# Altium schematic symbol library dungvh03-CERN_Connectors.SchLib: 576 symbols (part 5 of 8)
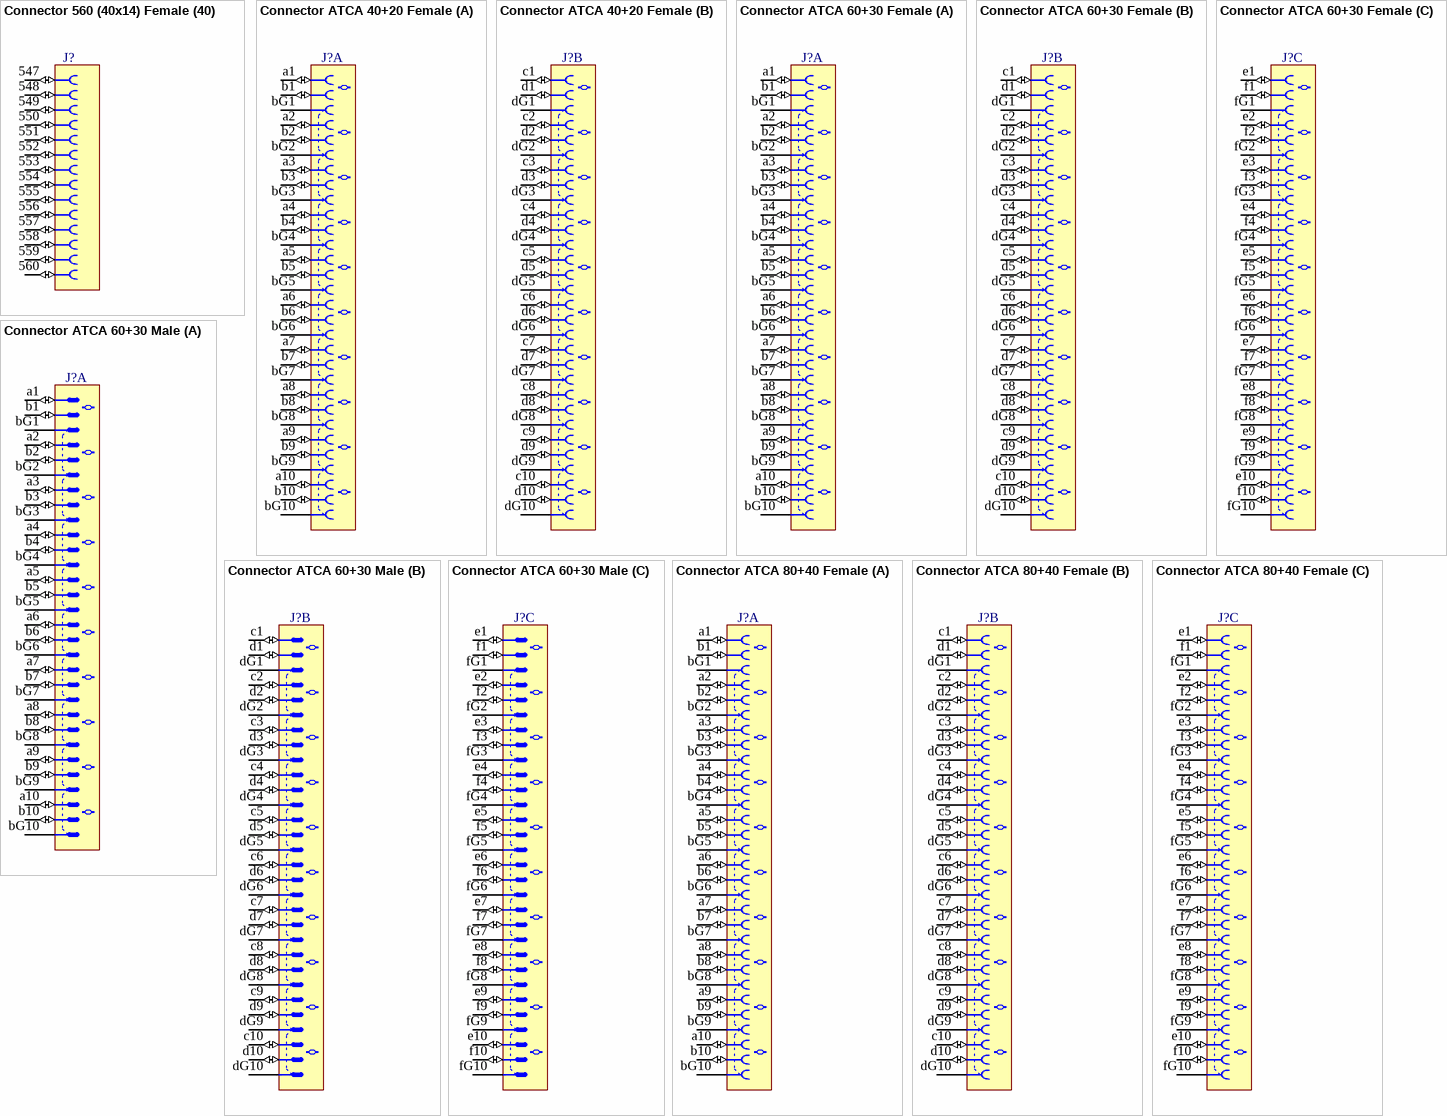
[diagram p79: symbols Connector 560 (40x14) Female to Connector ATCA 80+40 Female]

## Connector ATCA 60+30 Female
designator J?
Connector 60 ATCA Female 30 Pairs (60 Signals) + 3x10 Ground
part A pins: a1 (io), a2 (io), a3 (io), a4 (io), a5 (io), a6 (io), a7 (io), a8 (io), a9 (io), a10 (io), b1 (io), b2 (io), b3 (io), b4 (io), b5 (io), b6 (io), b7 (io), b8 (io), b9 (io), b10 (io), bG1 (power), bG2 (power), bG3 (power), bG4 (power), bG5 (power), bG6 (power), bG7 (power), bG8 (power), bG9 (power), bG10 (power)
part B pins: c1 (io), c2 (io), c3 (io), c4 (io), c5 (io), c6 (io), c7 (io), c8 (io), c9 (io), c10 (io), d1 (io), d2 (io), d3 (io), d4 (io), d5 (io), d6 (io), d7 (io), d8 (io), d9 (io), d10 (io), dG1 (power), dG2 (power), dG3 (power), dG4 (power), dG5 (power), dG6 (power), dG7 (power), dG8 (power), dG9 (power), dG10 (power)
part C pins: e1 (io), e2 (io), e3 (io), e4 (io), e5 (io), e6 (io), e7 (io), e8 (io), e9 (io), e10 (io), f1 (io), f2 (io), f3 (io), f4 (io), f5 (io), f6 (io), f7 (io), f8 (io), f9 (io), f10 (io), fG1 (power), fG2 (power), fG3 (power), fG4 (power), fG5 (power), fG6 (power), fG7 (power), fG8 (power), fG9 (power), fG10 (power)

## Connector ATCA 60+30 Male
designator J?
Connector 60 ATCA Male 30 Pairs (60 Signals) + 3x10 Ground
part A pins: a1 (io), a2 (io), a3 (io), a4 (io), a5 (io), a6 (io), a7 (io), a8 (io), a9 (io), a10 (io), b1 (io), b2 (io), b3 (io), b4 (io), b5 (io), b6 (io), b7 (io), b8 (io), b9 (io), b10 (io), bG1 (power), bG2 (power), bG3 (power), bG4 (power), bG5 (power), bG6 (power), bG7 (power), bG8 (power), bG9 (power), bG10 (power)
part B pins: c1 (io), c2 (io), c3 (io), c4 (io), c5 (io), c6 (io), c7 (io), c8 (io), c9 (io), c10 (io), d1 (io), d2 (io), d3 (io), d4 (io), d5 (io), d6 (io), d7 (io), d8 (io), d9 (io), d10 (io), dG1 (power), dG2 (power), dG3 (power), dG4 (power), dG5 (power), dG6 (power), dG7 (power), dG8 (power), dG9 (power), dG10 (power)
part C pins: e1 (io), e2 (io), e3 (io), e4 (io), e5 (io), e6 (io), e7 (io), e8 (io), e9 (io), e10 (io), f1 (io), f2 (io), f3 (io), f4 (io), f5 (io), f6 (io), f7 (io), f8 (io), f9 (io), f10 (io), fG1 (power), fG2 (power), fG3 (power), fG4 (power), fG5 (power), fG6 (power), fG7 (power), fG8 (power), fG9 (power), fG10 (power)

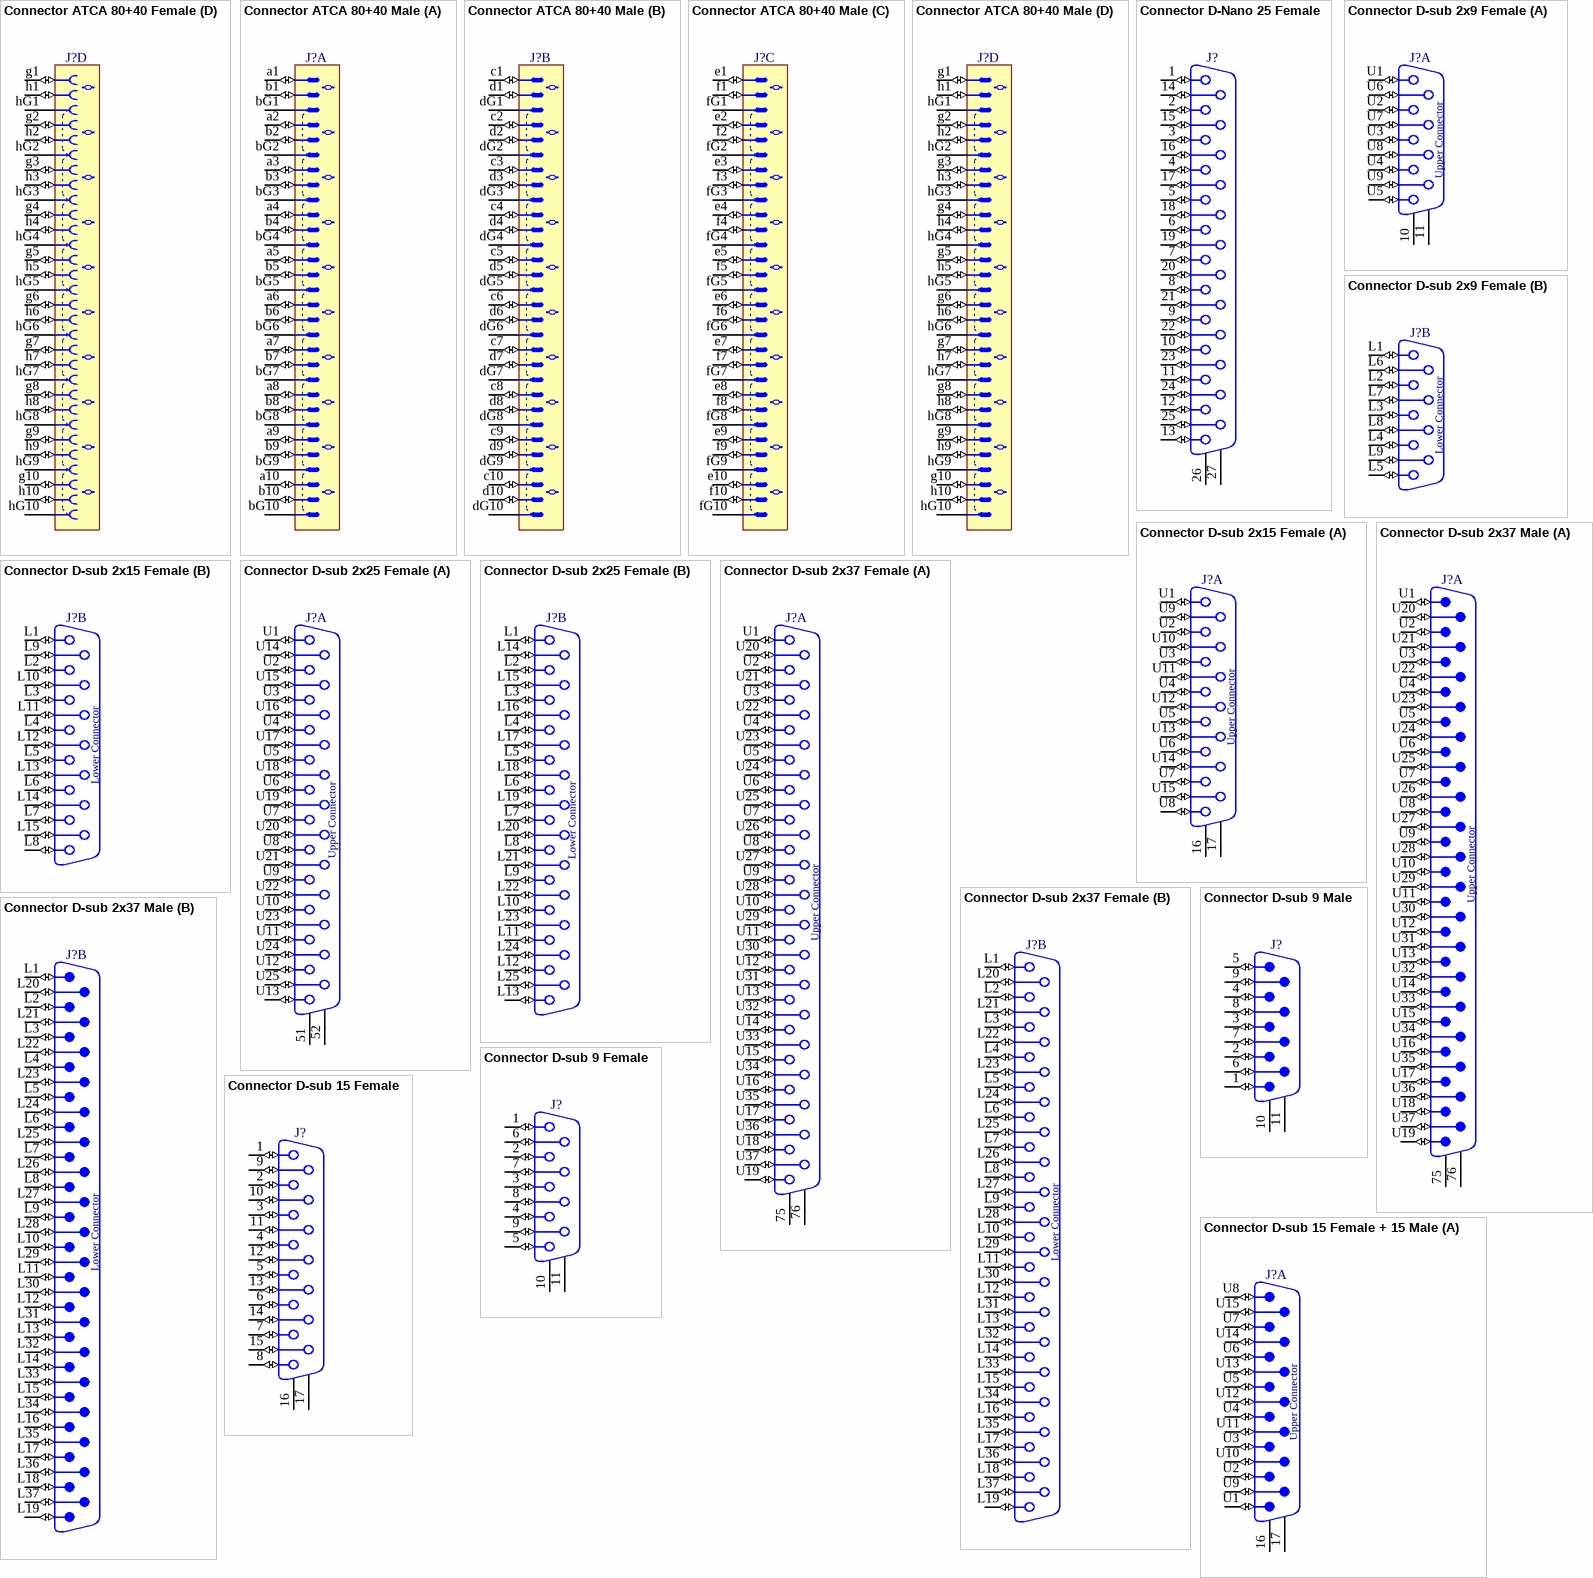
[diagram p45: symbols Connector ATCA 80+40 Female to Connector D-sub 15 Female + 15 Male]

## Connector ATCA 80+40 Female
designator J?
Connector 80 ATCA Female 40 Pairs (80 Signals) + 4x10 Ground
part A pins: a1 (io), a2 (io), a3 (io), a4 (io), a5 (io), a6 (io), a7 (io), a8 (io), a9 (io), a10 (io), b1 (io), b2 (io), b3 (io), b4 (io), b5 (io), b6 (io), b7 (io), b8 (io), b9 (io), b10 (io), bG1 (power), bG2 (power), bG3 (power), bG4 (power), bG5 (power), bG6 (power), bG7 (power), bG8 (power), bG9 (power), bG10 (power)
part B pins: c1 (io), c2 (io), c3 (io), c4 (io), c5 (io), c6 (io), c7 (io), c8 (io), c9 (io), c10 (io), d1 (io), d2 (io), d3 (io), d4 (io), d5 (io), d6 (io), d7 (io), d8 (io), d9 (io), d10 (io), dG1 (power), dG2 (power), dG3 (power), dG4 (power), dG5 (power), dG6 (power), dG7 (power), dG8 (power), dG9 (power), dG10 (power)
part C pins: e1 (io), e2 (io), e3 (io), e4 (io), e5 (io), e6 (io), e7 (io), e8 (io), e9 (io), e10 (io), f1 (io), f2 (io), f3 (io), f4 (io), f5 (io), f6 (io), f7 (io), f8 (io), f9 (io), f10 (io), fG1 (power), fG2 (power), fG3 (power), fG4 (power), fG5 (power), fG6 (power), fG7 (power), fG8 (power), fG9 (power), fG10 (power)
part D pins: g1 (io), g2 (io), g3 (io), g4 (io), g5 (io), g6 (io), g7 (io), g8 (io), g9 (io), g10 (io), h1 (io), h2 (io), h3 (io), h4 (io), h5 (io), h6 (io), h7 (io), h8 (io), h9 (io), h10 (io), hG1 (power), hG2 (power), hG3 (power), hG4 (power), hG5 (power), hG6 (power), hG7 (power), hG8 (power), hG9 (power), hG10 (power)

## Connector ATCA 80+40 Male
designator J?
Connector 80 ATCA Male 40 Pairs (80 Signals) + 4x10 Ground
part A pins: a1 (io), a2 (io), a3 (io), a4 (io), a5 (io), a6 (io), a7 (io), a8 (io), a9 (io), a10 (io), b1 (io), b2 (io), b3 (io), b4 (io), b5 (io), b6 (io), b7 (io), b8 (io), b9 (io), b10 (io), bG1 (power), bG2 (power), bG3 (power), bG4 (power), bG5 (power), bG6 (power), bG7 (power), bG8 (power), bG9 (power), bG10 (power)
part B pins: c1 (io), c2 (io), c3 (io), c4 (io), c5 (io), c6 (io), c7 (io), c8 (io), c9 (io), c10 (io), d1 (io), d2 (io), d3 (io), d4 (io), d5 (io), d6 (io), d7 (io), d8 (io), d9 (io), d10 (io), dG1 (power), dG2 (power), dG3 (power), dG4 (power), dG5 (power), dG6 (power), dG7 (power), dG8 (power), dG9 (power), dG10 (power)
part C pins: e1 (io), e2 (io), e3 (io), e4 (io), e5 (io), e6 (io), e7 (io), e8 (io), e9 (io), e10 (io), f1 (io), f2 (io), f3 (io), f4 (io), f5 (io), f6 (io), f7 (io), f8 (io), f9 (io), f10 (io), fG1 (power), fG2 (power), fG3 (power), fG4 (power), fG5 (power), fG6 (power), fG7 (power), fG8 (power), fG9 (power), fG10 (power)
part D pins: g1 (io), g2 (io), g3 (io), g4 (io), g5 (io), g6 (io), g7 (io), g8 (io), g9 (io), g10 (io), h1 (io), h2 (io), h3 (io), h4 (io), h5 (io), h6 (io), h7 (io), h8 (io), h9 (io), h10 (io), hG1 (power), hG2 (power), hG3 (power), hG4 (power), hG5 (power), hG6 (power), hG7 (power), hG8 (power), hG9 (power), hG10 (power)

## Connector D-Nano 25 Female
designator J?
Connector Nano-D 25 Female
pins: 1 (io), 2 (io), 3 (io), 4 (io), 5 (io), 6 (io), 7 (io), 8 (io), 9 (io), 10 (io), 11 (io), 12 (io), 13 (io), 14 (io), 15 (io), 16 (io), 17 (io), 18 (io), 19 (io), 20 (io), 21 (io), 22 (io), 23 (io), 24 (io), 25 (io), 26, 27
1 alternate drawing of the same symbol

## Connector D-sub 2x9 Female
designator J?
Connector D-sub 2x9 Female
part A pins: 10, 11, U1 (io), U2 (io), U3 (io), U4 (io), U5 (io), U6 (io), U7 (io), U8 (io), U9 (io)
part B pins: L1 (io), L2 (io), L3 (io), L4 (io), L5 (io), L6 (io), L7 (io), L8 (io), L9 (io)
part A text: Upper Connector
part B text: Lower Connector

## Connector D-sub 2x15 Female
designator J?
Connector D-sub 2x15 Female
part A pins: 16, 17, U1 (io), U2 (io), U3 (io), U4 (io), U5 (io), U6 (io), U7 (io), U8 (io), U9 (io), U10 (io), U11 (io), U12 (io), U13 (io), U14 (io), U15 (io)
part B pins: L1 (io), L2 (io), L3 (io), L4 (io), L5 (io), L6 (io), L7 (io), L8 (io), L9 (io), L10 (io), L11 (io), L12 (io), L13 (io), L14 (io), L15 (io)
part A text: Upper Connector
part B text: Lower Connector

## Connector D-sub 2x25 Female
designator J?
Connector D-sub 2x25 Female
part A pins: 51, 52, U1 (io), U2 (io), U3 (io), U4 (io), U5 (io), U6 (io), U7 (io), U8 (io), U9 (io), U10 (io), U11 (io), U12 (io), U13 (io), U14 (io), U15 (io), U16 (io), U17 (io), U18 (io), U19 (io), U20 (io), U21 (io), U22 (io), U23 (io), U24 (io), U25 (io)
part B pins: L1 (io), L2 (io), L3 (io), L4 (io), L5 (io), L6 (io), L7 (io), L8 (io), L9 (io), L10 (io), L11 (io), L12 (io), L13 (io), L14 (io), L15 (io), L16 (io), L17 (io), L18 (io), L19 (io), L20 (io), L21 (io), L22 (io), L23 (io), L24 (io), L25 (io)
part A text: Upper Connector
part B text: Lower Connector

## Connector D-sub 2x37 Female
designator J?
Connector D-sub 2x37 Female
part A pins: 75, 76, U1 (io), U2 (io), U3 (io), U4 (io), U5 (io), U6 (io), U7 (io), U8 (io), U9 (io), U10 (io), U11 (io), U12 (io), U13 (io), U14 (io), U15 (io), U16 (io), U17 (io), U18 (io), U19 (io), U20 (io), U21 (io), U22 (io), U23 (io), U24 (io), U25 (io), U26 (io), U27 (io), U28 (io), U29 (io), U30 (io), U31 (io), U32 (io), U33 (io), U34 (io), U35 (io), U36 (io), U37 (io)
part B pins: L1 (io), L2 (io), L3 (io), L4 (io), L5 (io), L6 (io), L7 (io), L8 (io), L9 (io), L10 (io), L11 (io), L12 (io), L13 (io), L14 (io), L15 (io), L16 (io), L17 (io), L18 (io), L19 (io), L20 (io), L21 (io), L22 (io), L23 (io), L24 (io), L25 (io), L26 (io), L27 (io), L28 (io), L29 (io), L30 (io), L31 (io), L32 (io), L33 (io), L34 (io), L35 (io), L36 (io), L37 (io)
part A text: Upper Connector
part B text: Lower Connector

## Connector D-sub 2x37 Male
designator J?
Connector D-sub 2x37 Male
part A pins: 75, 76, U1 (io), U2 (io), U3 (io), U4 (io), U5 (io), U6 (io), U7 (io), U8 (io), U9 (io), U10 (io), U11 (io), U12 (io), U13 (io), U14 (io), U15 (io), U16 (io), U17 (io), U18 (io), U19 (io), U20 (io), U21 (io), U22 (io), U23 (io), U24 (io), U25 (io), U26 (io), U27 (io), U28 (io), U29 (io), U30 (io), U31 (io), U32 (io), U33 (io), U34 (io), U35 (io), U36 (io), U37 (io)
part B pins: L1 (io), L2 (io), L3 (io), L4 (io), L5 (io), L6 (io), L7 (io), L8 (io), L9 (io), L10 (io), L11 (io), L12 (io), L13 (io), L14 (io), L15 (io), L16 (io), L17 (io), L18 (io), L19 (io), L20 (io), L21 (io), L22 (io), L23 (io), L24 (io), L25 (io), L26 (io), L27 (io), L28 (io), L29 (io), L30 (io), L31 (io), L32 (io), L33 (io), L34 (io), L35 (io), L36 (io), L37 (io)
part A text: Upper Connector
part B text: Lower Connector

## Connector D-sub 9 Female
designator J?
Connector D-sub 9 Female
pins: 1 (io), 2 (io), 3 (io), 4 (io), 5 (io), 6 (io), 7 (io), 8 (io), 9 (io), 10, 11
1 alternate drawing of the same symbol

## Connector D-sub 9 Male
designator J?
Connector D-sub 9 Male
pins: 1 (io), 2 (io), 3 (io), 4 (io), 5 (io), 6 (io), 7 (io), 8 (io), 9 (io), 10, 11
1 alternate drawing of the same symbol

## Connector D-sub 15 Female
designator J?
Connector D-sub 15 Female
pins: 1 (io), 2 (io), 3 (io), 4 (io), 5 (io), 6 (io), 7 (io), 8 (io), 9 (io), 10 (io), 11 (io), 12 (io), 13 (io), 14 (io), 15 (io), 16, 17
1 alternate drawing of the same symbol

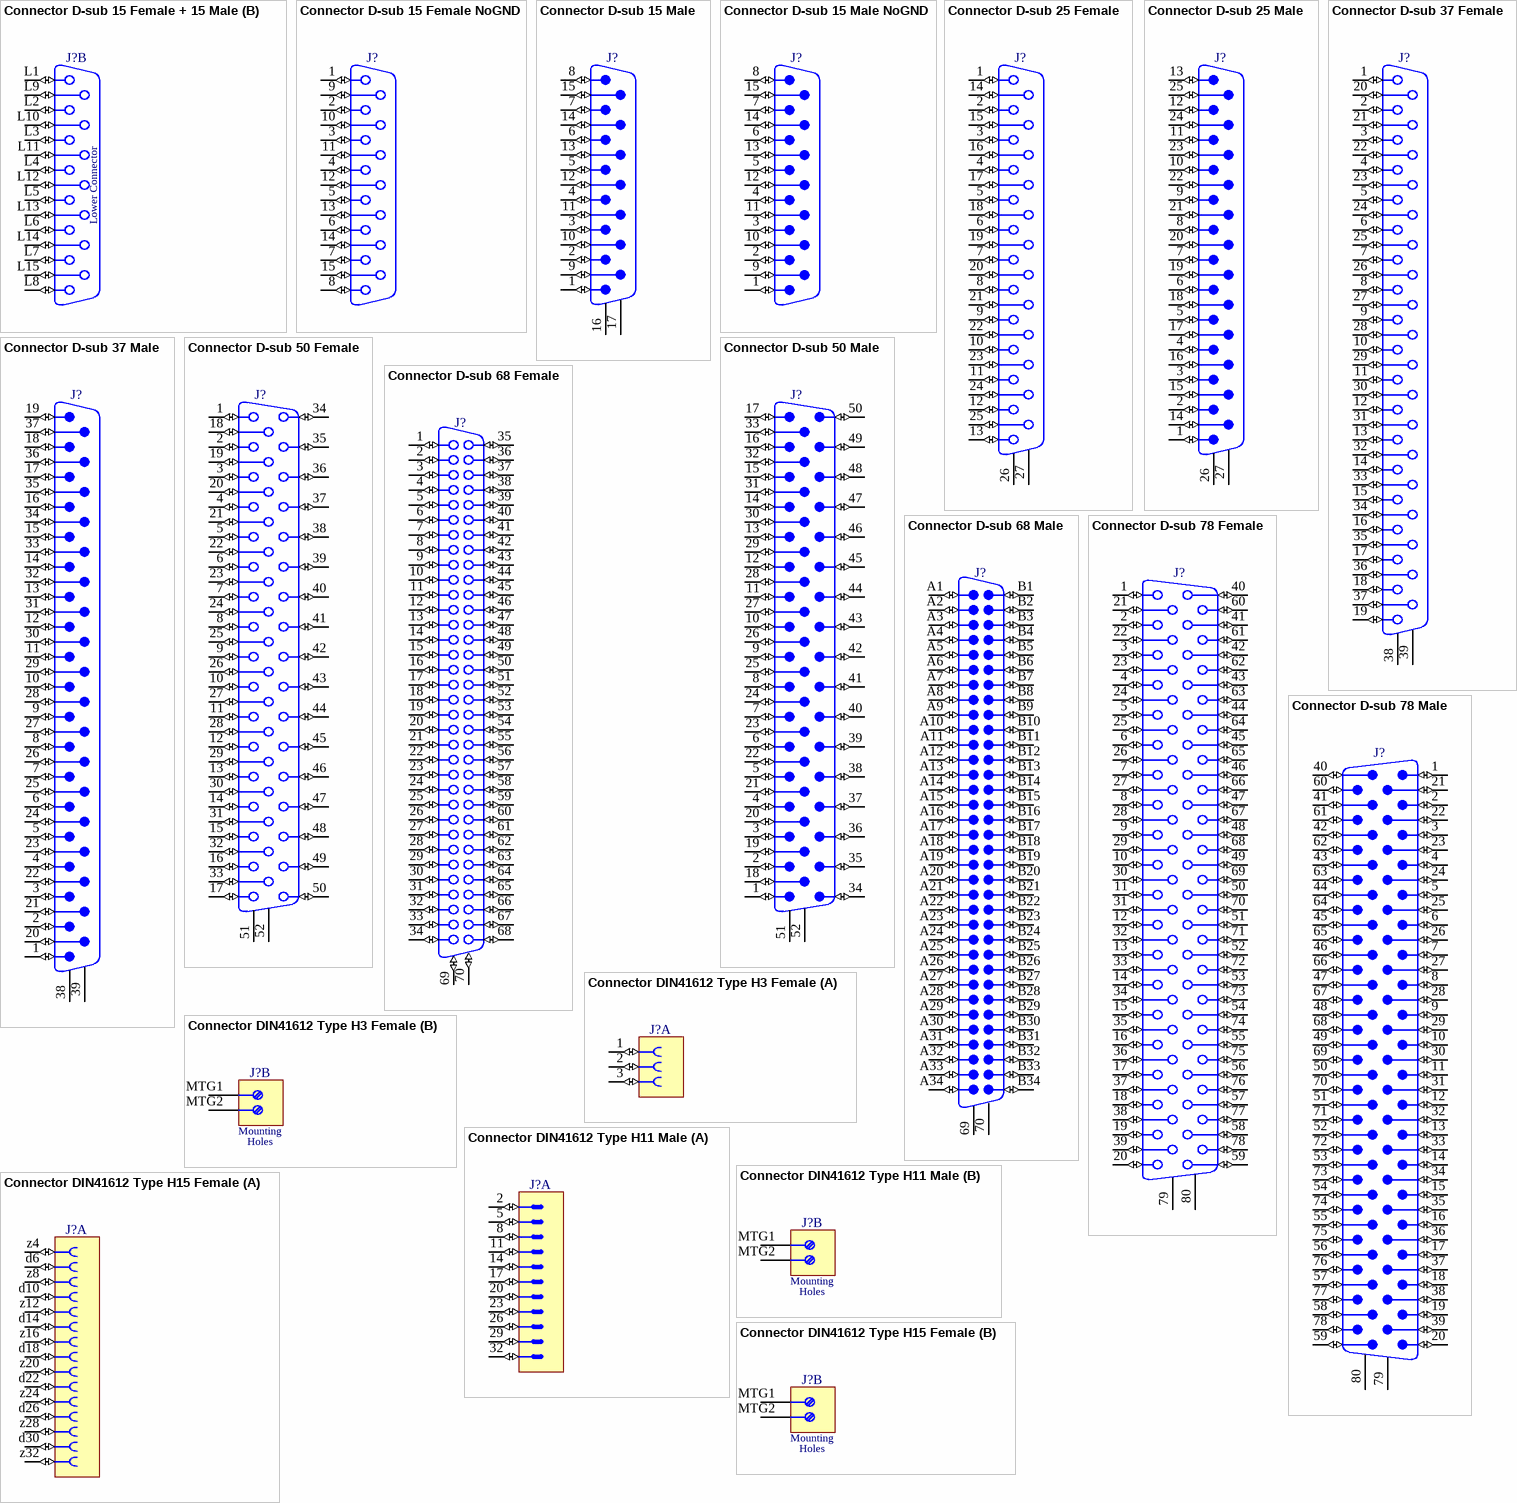
[diagram p46: symbols Connector D-sub 15 Female + 15 Male to Connector DIN41612 Type H15 Female]

## Connector D-sub 15 Female + 15 Male
designator J?
Connector D-sub 15 Female + 15 Male
part A pins: 16, 17, U1 (io), U2 (io), U3 (io), U4 (io), U5 (io), U6 (io), U7 (io), U8 (io), U9 (io), U10 (io), U11 (io), U12 (io), U13 (io), U14 (io), U15 (io)
part B pins: L1 (io), L2 (io), L3 (io), L4 (io), L5 (io), L6 (io), L7 (io), L8 (io), L9 (io), L10 (io), L11 (io), L12 (io), L13 (io), L14 (io), L15 (io)
part A text: Upper Connector
part B text: Lower Connector

## Connector D-sub 15 Female NoGND
designator J?
Connector D-sub 15 Female Without Grounding-Pins
pins: 1 (io), 2 (io), 3 (io), 4 (io), 5 (io), 6 (io), 7 (io), 8 (io), 9 (io), 10 (io), 11 (io), 12 (io), 13 (io), 14 (io), 15 (io)
1 alternate drawing of the same symbol

## Connector D-sub 15 Male
designator J?
Connector D-sub 15 Male
pins: 1 (io), 2 (io), 3 (io), 4 (io), 5 (io), 6 (io), 7 (io), 8 (io), 9 (io), 10 (io), 11 (io), 12 (io), 13 (io), 14 (io), 15 (io), 16, 17
1 alternate drawing of the same symbol

## Connector D-sub 15 Male NoGND
designator J?
Connector D-sub 15 Male Without Grounding-Pins
pins: 1 (io), 2 (io), 3 (io), 4 (io), 5 (io), 6 (io), 7 (io), 8 (io), 9 (io), 10 (io), 11 (io), 12 (io), 13 (io), 14 (io), 15 (io)
1 alternate drawing of the same symbol

## Connector D-sub 25 Female
designator J?
Connector D-sub 25 Female
pins: 1 (io), 2 (io), 3 (io), 4 (io), 5 (io), 6 (io), 7 (io), 8 (io), 9 (io), 10 (io), 11 (io), 12 (io), 13 (io), 14 (io), 15 (io), 16 (io), 17 (io), 18 (io), 19 (io), 20 (io), 21 (io), 22 (io), 23 (io), 24 (io), 25 (io), 26, 27
1 alternate drawing of the same symbol

## Connector D-sub 25 Male
designator J?
Connector D-sub 25 Male
pins: 1 (io), 2 (io), 3 (io), 4 (io), 5 (io), 6 (io), 7 (io), 8 (io), 9 (io), 10 (io), 11 (io), 12 (io), 13 (io), 14 (io), 15 (io), 16 (io), 17 (io), 18 (io), 19 (io), 20 (io), 21 (io), 22 (io), 23 (io), 24 (io), 25 (io), 26, 27
1 alternate drawing of the same symbol

## Connector D-sub 37 Female
designator J?
Connector D-sub 37 Female
pins: 1 (io), 2 (io), 3 (io), 4 (io), 5 (io), 6 (io), 7 (io), 8 (io), 9 (io), 10 (io), 11 (io), 12 (io), 13 (io), 14 (io), 15 (io), 16 (io), 17 (io), 18 (io), 19 (io), 20 (io), 21 (io), 22 (io), 23 (io), 24 (io), 25 (io), 26 (io), 27 (io), 28 (io), 29 (io), 30 (io), 31 (io), 32 (io), 33 (io), 34 (io), 35 (io), 36 (io), 37 (io), 38, 39
1 alternate drawing of the same symbol

## Connector D-sub 37 Male
designator J?
Connector D-sub 37 Male
pins: 1 (io), 2 (io), 3 (io), 4 (io), 5 (io), 6 (io), 7 (io), 8 (io), 9 (io), 10 (io), 11 (io), 12 (io), 13 (io), 14 (io), 15 (io), 16 (io), 17 (io), 18 (io), 19 (io), 20 (io), 21 (io), 22 (io), 23 (io), 24 (io), 25 (io), 26 (io), 27 (io), 28 (io), 29 (io), 30 (io), 31 (io), 32 (io), 33 (io), 34 (io), 35 (io), 36 (io), 37 (io), 38, 39
1 alternate drawing of the same symbol

## Connector D-sub 50 Female
designator J?
Connector D-sub 50 Female
pins: 1 (io), 2 (io), 3 (io), 4 (io), 5 (io), 6 (io), 7 (io), 8 (io), 9 (io), 10 (io), 11 (io), 12 (io), 13 (io), 14 (io), 15 (io), 16 (io), 17 (io), 18 (io), 19 (io), 20 (io), 21 (io), 22 (io), 23 (io), 24 (io), 25 (io), 26 (io), 27 (io), 28 (io), 29 (io), 30 (io), 31 (io), 32 (io), 33 (io), 34 (io), 35 (io), 36 (io), 37 (io), 38 (io), 39 (io), 40 (io), 41 (io), 42 (io), 43 (io), 44 (io), 45 (io), 46 (io), 47 (io), 48 (io), 49 (io), 50 (io), 51, 52
1 alternate drawing of the same symbol

## Connector D-sub 50 Male
designator J?
Connector D-sub 50 Male
pins: 1 (io), 2 (io), 3 (io), 4 (io), 5 (io), 6 (io), 7 (io), 8 (io), 9 (io), 10 (io), 11 (io), 12 (io), 13 (io), 14 (io), 15 (io), 16 (io), 17 (io), 18 (io), 19 (io), 20 (io), 21 (io), 22 (io), 23 (io), 24 (io), 25 (io), 26 (io), 27 (io), 28 (io), 29 (io), 30 (io), 31 (io), 32 (io), 33 (io), 34 (io), 35 (io), 36 (io), 37 (io), 38 (io), 39 (io), 40 (io), 41 (io), 42 (io), 43 (io), 44 (io), 45 (io), 46 (io), 47 (io), 48 (io), 49 (io), 50 (io), 51, 52
1 alternate drawing of the same symbol

## Connector D-sub 68 Female
designator J?
68 Contacts D-sub Receptacle
pins: 1 (io), 2 (io), 3 (io), 4 (io), 5 (io), 6 (io), 7 (io), 8 (io), 9 (io), 10 (io), 11 (io), 12 (io), 13 (io), 14 (io), 15 (io), 16 (io), 17 (io), 18 (io), 19 (io), 20 (io), 21 (io), 22 (io), 23 (io), 24 (io), 25 (io), 26 (io), 27 (io), 28 (io), 29 (io), 30 (io), 31 (io), 32 (io), 33 (io), 34 (io), 35 (io), 36 (io), 37 (io), 38 (io), 39 (io), 40 (io), 41 (io), 42 (io), 43 (io), 44 (io), 45 (io), 46 (io), 47 (io), 48 (io), 49 (io), 50 (io), 51 (io), 52 (io), 53 (io), 54 (io), 55 (io), 56 (io), 57 (io), 58 (io), 59 (io), 60 (io), 61 (io), 62 (io), 63 (io), 64 (io), 65 (io), 66 (io), 67 (io), 68 (io), 69 (io), 70 (io)
1 alternate drawing of the same symbol

## Connector D-sub 68 Male
designator J?
68 Contacts D-sub Header
pins: 69, 70, A1 (io), A2 (io), A3 (io), A4 (io), A5 (io), A6 (io), A7 (io), A8 (io), A9 (io), A10 (io), A11 (io), A12 (io), A13 (io), A14 (io), A15 (io), A16 (io), A17 (io), A18 (io), A19 (io), A20 (io), A21 (io), A22 (io), A23 (io), A24 (io), A25 (io), A26 (io), A27 (io), A28 (io), A29 (io), A30 (io), A31 (io), A32 (io), A33 (io), A34 (io), B1 (io), B2 (io), B3 (io), B4 (io), B5 (io), B6 (io), B7 (io), B8 (io), B9 (io), B10 (io), B11 (io), B12 (io), B13 (io), B14 (io), B15 (io), B16 (io), B17 (io), B18 (io), B19 (io), B20 (io), B21 (io), B22 (io), B23 (io), B24 (io), B25 (io), B26 (io), B27 (io), B28 (io), B29 (io), B30 (io), B31 (io), B32 (io), B33 (io), B34 (io)
1 alternate drawing of the same symbol

## Connector D-sub 78 Female
designator J?
Connector D-sub 78 Female
pins: 1 (io), 2 (io), 3 (io), 4 (io), 5 (io), 6 (io), 7 (io), 8 (io), 9 (io), 10 (io), 11 (io), 12 (io), 13 (io), 14 (io), 15 (io), 16 (io), 17 (io), 18 (io), 19 (io), 20 (io), 21 (io), 22 (io), 23 (io), 24 (io), 25 (io), 26 (io), 27 (io), 28 (io), 29 (io), 30 (io), 31 (io), 32 (io), 33 (io), 34 (io), 35 (io), 36 (io), 37 (io), 38 (io), 39 (io), 40 (io), 41 (io), 42 (io), 43 (io), 44 (io), 45 (io), 46 (io), 47 (io), 48 (io), 49 (io), 50 (io), 51 (io), 52 (io), 53 (io), 54 (io), 55 (io), 56 (io), 57 (io), 58 (io), 59 (io), 60 (io), 61 (io), 62 (io), 63 (io), 64 (io), 65 (io), 66 (io), 67 (io), 68 (io), 69 (io), 70 (io), 71 (io), 72 (io), 73 (io), 74 (io), 75 (io), 76 (io), 77 (io), 78 (io), 79, 80
1 alternate drawing of the same symbol

## Connector D-sub 78 Male
designator J?
Connector D-sub 78 Male
pins: 1 (io), 2 (io), 3 (io), 4 (io), 5 (io), 6 (io), 7 (io), 8 (io), 9 (io), 10 (io), 11 (io), 12 (io), 13 (io), 14 (io), 15 (io), 16 (io), 17 (io), 18 (io), 19 (io), 20 (io), 21 (io), 22 (io), 23 (io), 24 (io), 25 (io), 26 (io), 27 (io), 28 (io), 29 (io), 30 (io), 31 (io), 32 (io), 33 (io), 34 (io), 35 (io), 36 (io), 37 (io), 38 (io), 39 (io), 40 (io), 41 (io), 42 (io), 43 (io), 44 (io), 45 (io), 46 (io), 47 (io), 48 (io), 49 (io), 50 (io), 51 (io), 52 (io), 53 (io), 54 (io), 55 (io), 56 (io), 57 (io), 58 (io), 59 (io), 60 (io), 61 (io), 62 (io), 63 (io), 64 (io), 65 (io), 66 (io), 67 (io), 68 (io), 69 (io), 70 (io), 71 (io), 72 (io), 73 (io), 74 (io), 75 (io), 76 (io), 77 (io), 78 (io), 79, 80
1 alternate drawing of the same symbol

## Connector DIN41612 Type H3 Female
designator J?
Connector DIN41612 Type H3 Female
part A pins: 1 (io), 2 (io), 3 (io)
part B pins: MTG1 "Mounting Fixture", MTG2 "Mounting Fixture"
part B text: Mounting; Holes

## Connector DIN41612 Type H11 Male
designator J?
Connector DIN41612 Type H11 Male
part A pins: 2 (io), 5 (io), 8 (io), 11 (io), 14 (io), 17 (io), 20 (io), 23 (io), 26 (io), 29 (io), 32 (io)
part B pins: MTG1 "Mounting Fixture", MTG2 "Mounting Fixture"
part B text: Mounting; Holes

## Connector DIN41612 Type H15 Female
designator J?
Connector DIN41612 Type H15 Female
part A pins: d6 (io), d10 (io), d14 (io), d18 (io), d22 (io), d26 (io), d30 (io), z4 (io), z8 (io), z12 (io), z16 (io), z20 (io), z24 (io), z28 (io), z32 (io)
part B pins: MTG1 "Mounting Fixture", MTG2 "Mounting Fixture"
part B text: Mounting; Holes

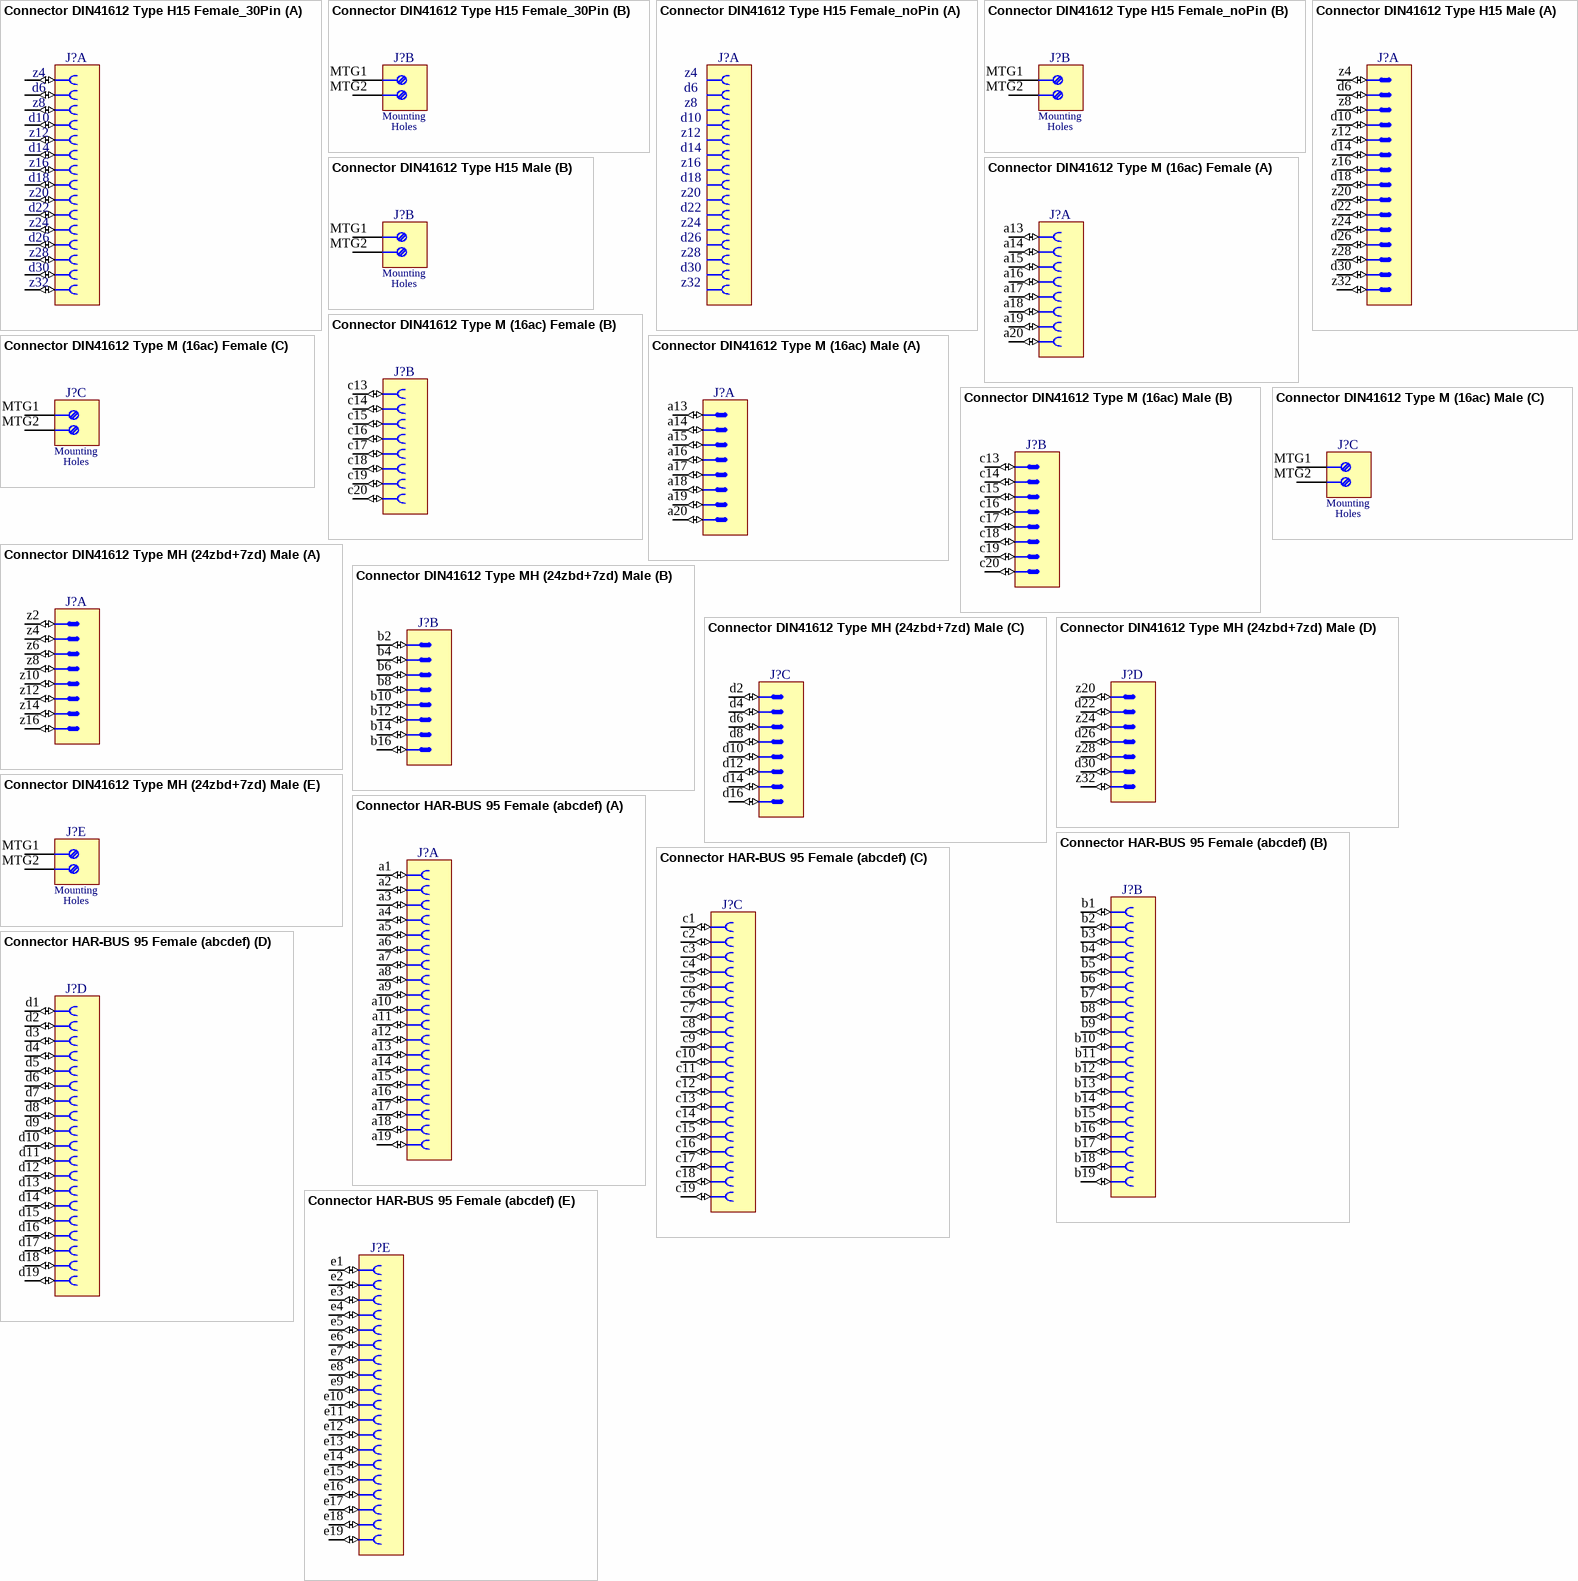
[diagram p47: symbols Connector DIN41612 Type H15 Female_30Pin to Connector HAR-BUS 95 Female (abcdef)]

## Connector DIN41612 Type H15 Female_30Pin
designator J?
Connector DIN41612 Type H15 Female_30Pin
part A pins: d5 (io), d7 (io), d9 (io), d11 (io), d13 (io), d15 (io), d17 (io), d19 (io), d21 (io), d23 (io), d25 (io), d27 (io), d29 (io), d31 (io), z3 (io), z5 (io), z7 (io), z9 (io), z11 (io), z13 (io), z15 (io), z17 (io), z19 (io), z21 (io), z23 (io), z25 (io), z27 (io), z29 (io), z31 (io), z33 (io)
part B pins: MTG1 "Mounting Fixture", MTG2 "Mounting Fixture"
part A text: z4; d6; z8; d10; z12; d14; z16; d18; z20; d22; z24; d26; z28; d30; z32
part B text: Mounting; Holes

## Connector DIN41612 Type H15 Female_noPin
designator J?
Connector DIN41612 Type H15 Female_noPin
part B pins: MTG1 "Mounting Fixture", MTG2 "Mounting Fixture"
part A text: z4; d6; z8; d10; z12; d14; z16; d18; z20; d22; z24; d26; z28; d30; z32
part B text: Mounting; Holes

## Connector DIN41612 Type H15 Male
designator J?
Connector DIN41612 Type H15 Male
part A pins: d6 (io), d10 (io), d14 (io), d18 (io), d22 (io), d26 (io), d30 (io), z4 (io), z8 (io), z12 (io), z16 (io), z20 (io), z24 (io), z28 (io), z32 (io)
part B pins: MTG1 "Mounting Fixture", MTG2 "Mounting Fixture"
part B text: Mounting; Holes

## Connector DIN41612 Type M (16ac) Female
designator J?
DIN 41612, Type M, 16 Contact (Row ac) + 8 Special Contacts, Female Connector
part A pins: a13 (io), a14 (io), a15 (io), a16 (io), a17 (io), a18 (io), a19 (io), a20 (io)
part B pins: c13 (io), c14 (io), c15 (io), c16 (io), c17 (io), c18 (io), c19 (io), c20 (io)
part C pins: MTG1 "Mounting Fixture", MTG2 "Mounting Fixture"
part C text: Mounting; Holes

## Connector DIN41612 Type M (16ac) Male
designator J?
DIN 41612, Type M, 16 Contact (Row ac) + 8 Special Contacts, Male Connector
part A pins: a13 (io), a14 (io), a15 (io), a16 (io), a17 (io), a18 (io), a19 (io), a20 (io)
part B pins: c13 (io), c14 (io), c15 (io), c16 (io), c17 (io), c18 (io), c19 (io), c20 (io)
part C pins: MTG1 "Mounting Fixture", MTG2 "Mounting Fixture"
part C text: Mounting; Holes

## Connector DIN41612 Type MH (24zbd+7zd) Male
designator J?
Connector DIN41612 Type MH (24zbd+7zd) Male
part A pins: z2 (io), z4 (io), z6 (io), z8 (io), z10 (io), z12 (io), z14 (io), z16 (io)
part B pins: b2 (io), b4 (io), b6 (io), b8 (io), b10 (io), b12 (io), b14 (io), b16 (io)
part C pins: d2 (io), d4 (io), d6 (io), d8 (io), d10 (io), d12 (io), d14 (io), d16 (io)
part D pins: d22 (io), d26 (io), d30 (io), z20 (io), z24 (io), z28 (io), z32 (io)
part E pins: MTG1 "Mounting Fixture", MTG2 "Mounting Fixture"
part E text: Mounting; Holes

## Connector HAR-BUS 95 Female (abcdef)
designator J?
Connector HAR-BUS 95 Female (abcdef)
part A pins: a1 1 (io), a2 2 (io), a3 3 (io), a4 4 (io), a5 5 (io), a6 6 (io), a7 7 (io), a8 8 (io), a9 9 (io), a10 10 (io), a11 11 (io), a12 12 (io), a13 13 (io), a14 14 (io), a15 15 (io), a16 16 (io), a17 17 (io), a18 18 (io), a19 19 (io)
part B pins: b1 1 (io), b2 2 (io), b3 3 (io), b4 4 (io), b5 5 (io), b6 6 (io), b7 7 (io), b8 8 (io), b9 9 (io), b10 10 (io), b11 11 (io), b12 12 (io), b13 13 (io), b14 14 (io), b15 15 (io), b16 16 (io), b17 17 (io), b18 18 (io), b19 19 (io)
part C pins: c1 1 (io), c2 2 (io), c3 3 (io), c4 4 (io), c5 5 (io), c6 6 (io), c7 7 (io), c8 8 (io), c9 9 (io), c10 10 (io), c11 11 (io), c12 12 (io), c13 13 (io), c14 14 (io), c15 15 (io), c16 16 (io), c17 17 (io), c18 18 (io), c19 19 (io)
part D pins: d1 1 (io), d2 2 (io), d3 3 (io), d4 4 (io), d5 5 (io), d6 6 (io), d7 7 (io), d8 8 (io), d9 9 (io), d10 10 (io), d11 11 (io), d12 12 (io), d13 13 (io), d14 14 (io), d15 15 (io), d16 16 (io), d17 17 (io), d18 18 (io), d19 19 (io)
part E pins: e1 1 (io), e2 2 (io), e3 3 (io), e4 4 (io), e5 5 (io), e6 6 (io), e7 7 (io), e8 8 (io), e9 9 (io), e10 10 (io), e11 11 (io), e12 12 (io), e13 13 (io), e14 14 (io), e15 15 (io), e16 16 (io), e17 17 (io), e18 18 (io), e19 19 (io)

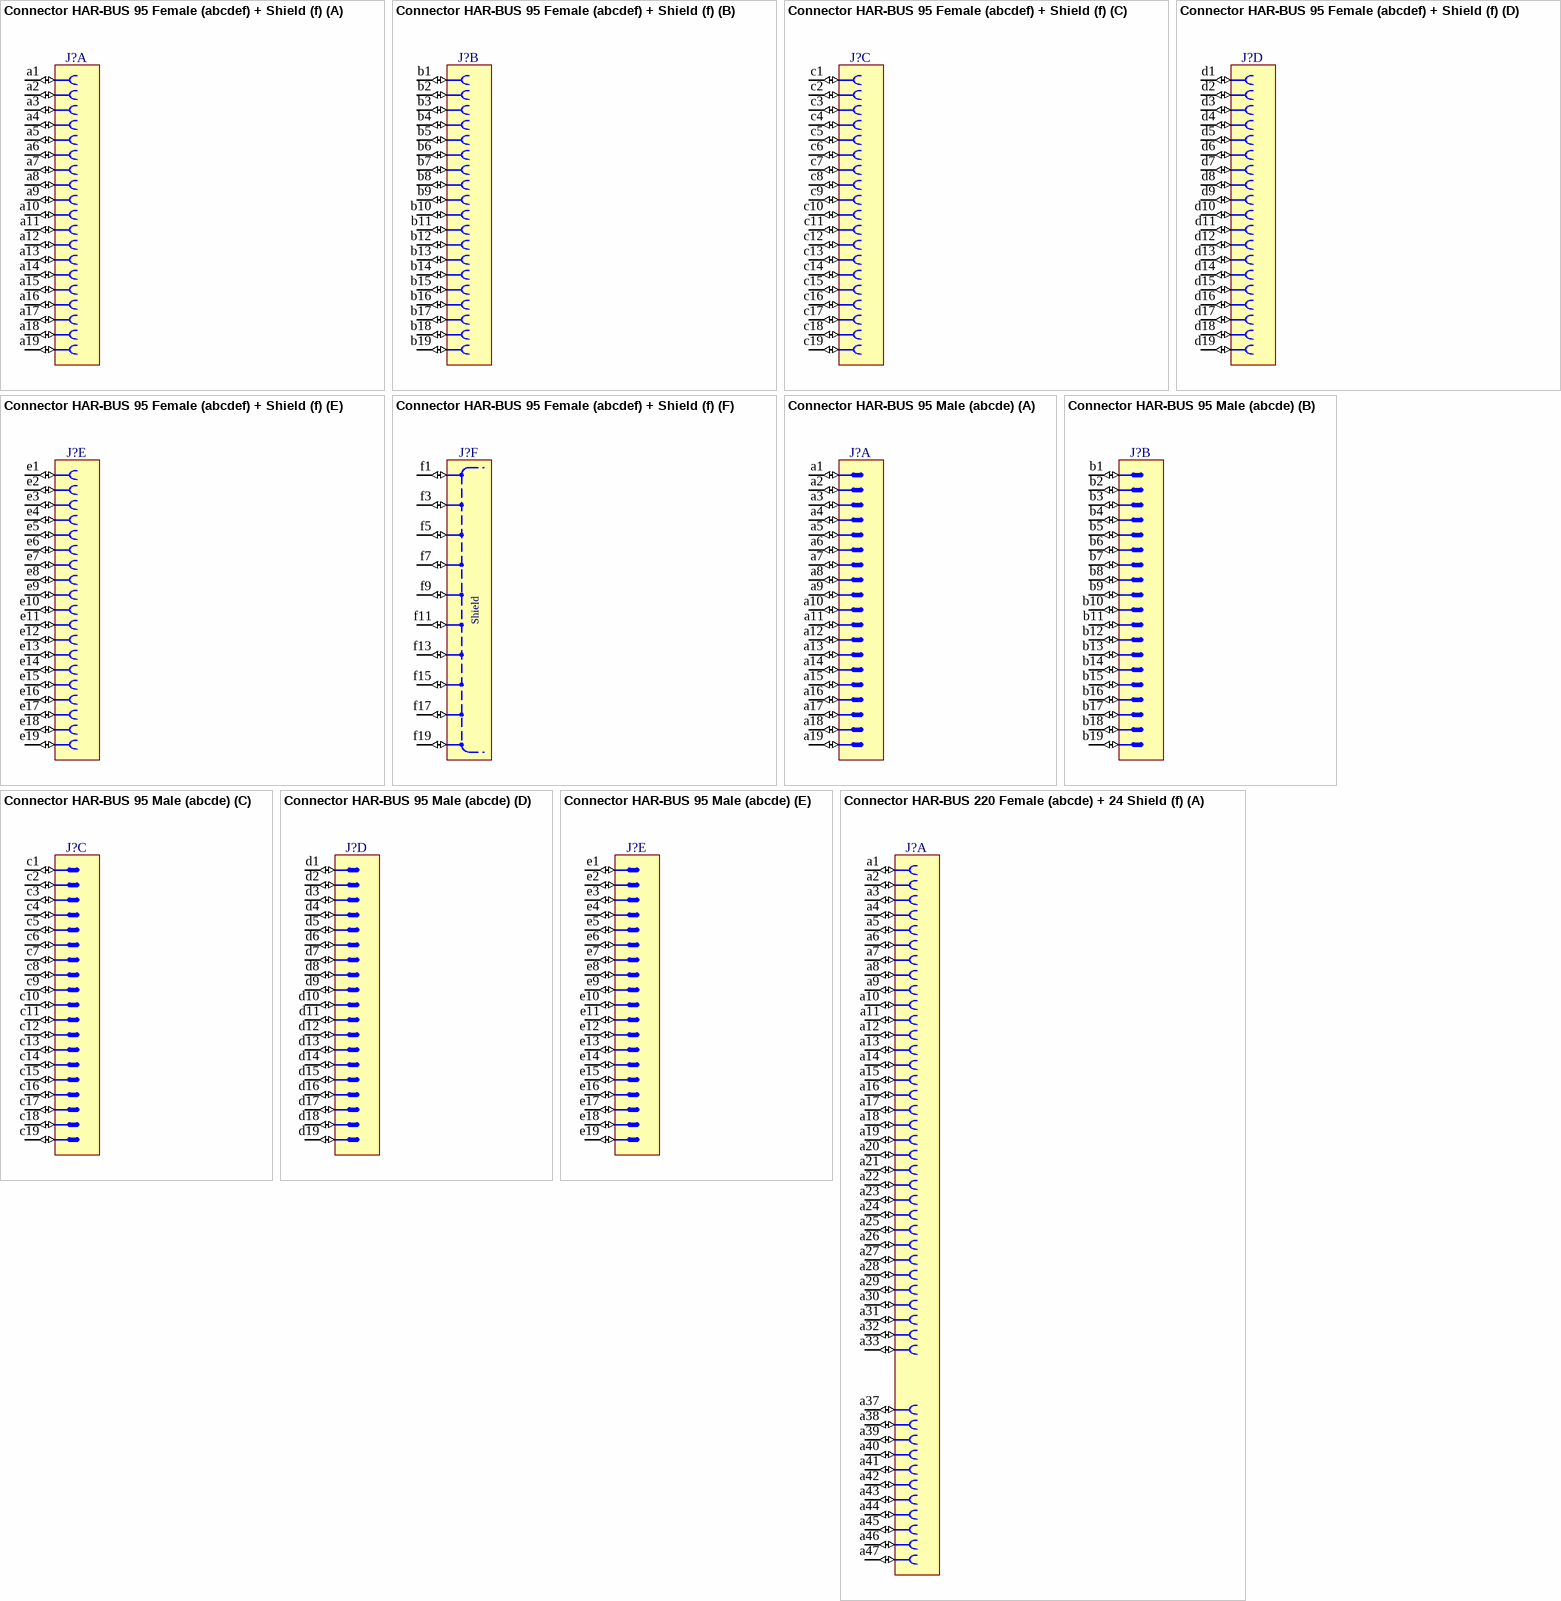
[diagram p48: symbols Connector HAR-BUS 95 Female (abcdef) + Shield (f) to Connector HAR-BUS 220 Female (abcde) + 24 Shield (f)]

## Connector HAR-BUS 95 Female (abcdef) + Shield (f)
designator J?
Connector HAR-BUS 95 Female (abcdef) + Shield (f)
part A pins: a1 1 (io), a2 2 (io), a3 3 (io), a4 4 (io), a5 5 (io), a6 6 (io), a7 7 (io), a8 8 (io), a9 9 (io), a10 10 (io), a11 11 (io), a12 12 (io), a13 13 (io), a14 14 (io), a15 15 (io), a16 16 (io), a17 17 (io), a18 18 (io), a19 19 (io)
part B pins: b1 1 (io), b2 2 (io), b3 3 (io), b4 4 (io), b5 5 (io), b6 6 (io), b7 7 (io), b8 8 (io), b9 9 (io), b10 10 (io), b11 11 (io), b12 12 (io), b13 13 (io), b14 14 (io), b15 15 (io), b16 16 (io), b17 17 (io), b18 18 (io), b19 19 (io)
part C pins: c1 1 (io), c2 2 (io), c3 3 (io), c4 4 (io), c5 5 (io), c6 6 (io), c7 7 (io), c8 8 (io), c9 9 (io), c10 10 (io), c11 11 (io), c12 12 (io), c13 13 (io), c14 14 (io), c15 15 (io), c16 16 (io), c17 17 (io), c18 18 (io), c19 19 (io)
part D pins: d1 1 (io), d2 2 (io), d3 3 (io), d4 4 (io), d5 5 (io), d6 6 (io), d7 7 (io), d8 8 (io), d9 9 (io), d10 10 (io), d11 11 (io), d12 12 (io), d13 13 (io), d14 14 (io), d15 15 (io), d16 16 (io), d17 17 (io), d18 18 (io), d19 19 (io)
part E pins: e1 1 (io), e2 2 (io), e3 3 (io), e4 4 (io), e5 5 (io), e6 6 (io), e7 7 (io), e8 8 (io), e9 9 (io), e10 10 (io), e11 11 (io), e12 12 (io), e13 13 (io), e14 14 (io), e15 15 (io), e16 16 (io), e17 17 (io), e18 18 (io), e19 19 (io)
part F pins: f1 1 (io), f3 3 (io), f5 5 (io), f7 7 (io), f9 9 (io), f11 11 (io), f13 13 (io), f15 15 (io), f17 17 (io), f19 19 (io)
part F text: Shield

## Connector HAR-BUS 95 Male (abcde)
designator J?
Connector HAR-BUS 95 Male (abcde)
part A pins: a1 (io), a2 (io), a3 (io), a4 (io), a5 (io), a6 (io), a7 (io), a8 (io), a9 (io), a10 (io), a11 (io), a12 (io), a13 (io), a14 (io), a15 (io), a16 (io), a17 (io), a18 (io), a19 (io)
part B pins: b1 (io), b2 (io), b3 (io), b4 (io), b5 (io), b6 (io), b7 (io), b8 (io), b9 (io), b10 (io), b11 (io), b12 (io), b13 (io), b14 (io), b15 (io), b16 (io), b17 (io), b18 (io), b19 (io)
part C pins: c1 (io), c2 (io), c3 (io), c4 (io), c5 (io), c6 (io), c7 (io), c8 (io), c9 (io), c10 (io), c11 (io), c12 (io), c13 (io), c14 (io), c15 (io), c16 (io), c17 (io), c18 (io), c19 (io)
part D pins: d1 (io), d2 (io), d3 (io), d4 (io), d5 (io), d6 (io), d7 (io), d8 (io), d9 (io), d10 (io), d11 (io), d12 (io), d13 (io), d14 (io), d15 (io), d16 (io), d17 (io), d18 (io), d19 (io)
part E pins: e1 (io), e2 (io), e3 (io), e4 (io), e5 (io), e6 (io), e7 (io), e8 (io), e9 (io), e10 (io), e11 (io), e12 (io), e13 (io), e14 (io), e15 (io), e16 (io), e17 (io), e18 (io), e19 (io)

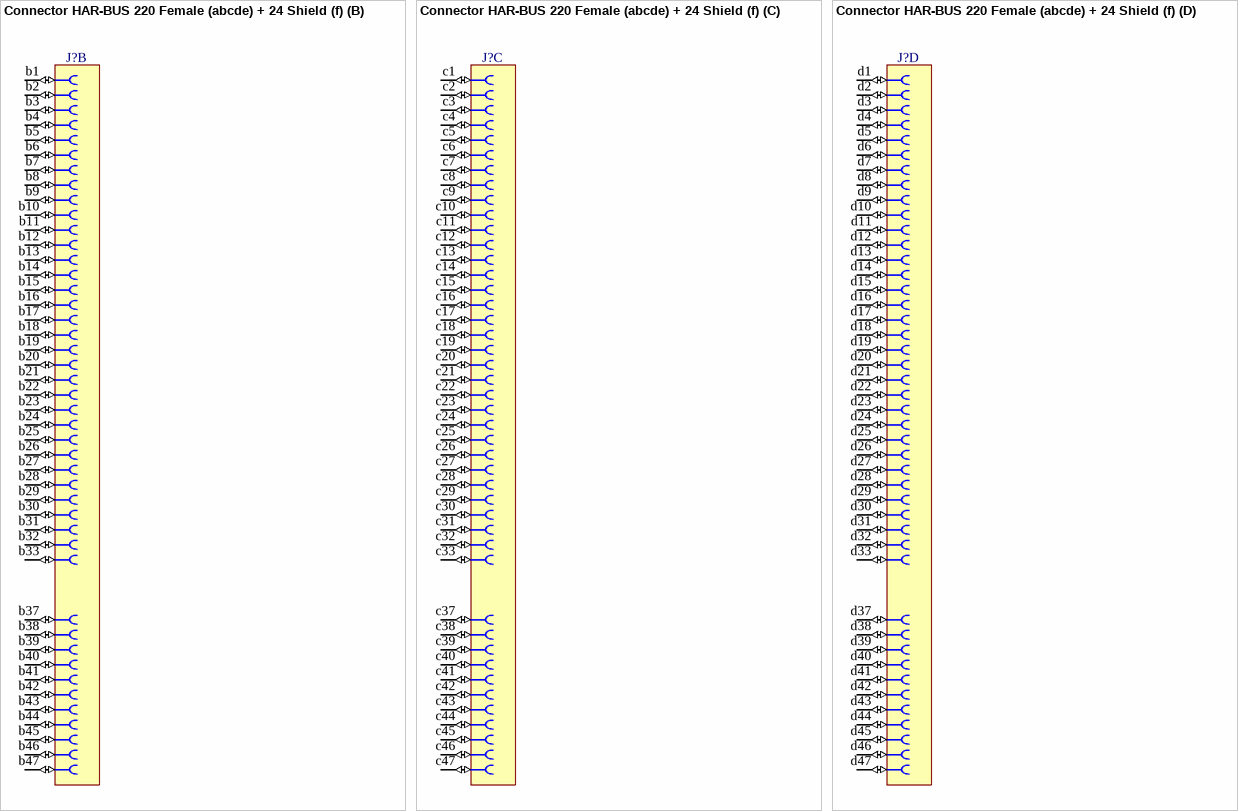
[diagram p49: symbol Connector HAR-BUS 220 Female (abcde) + 24 Shield (f)]

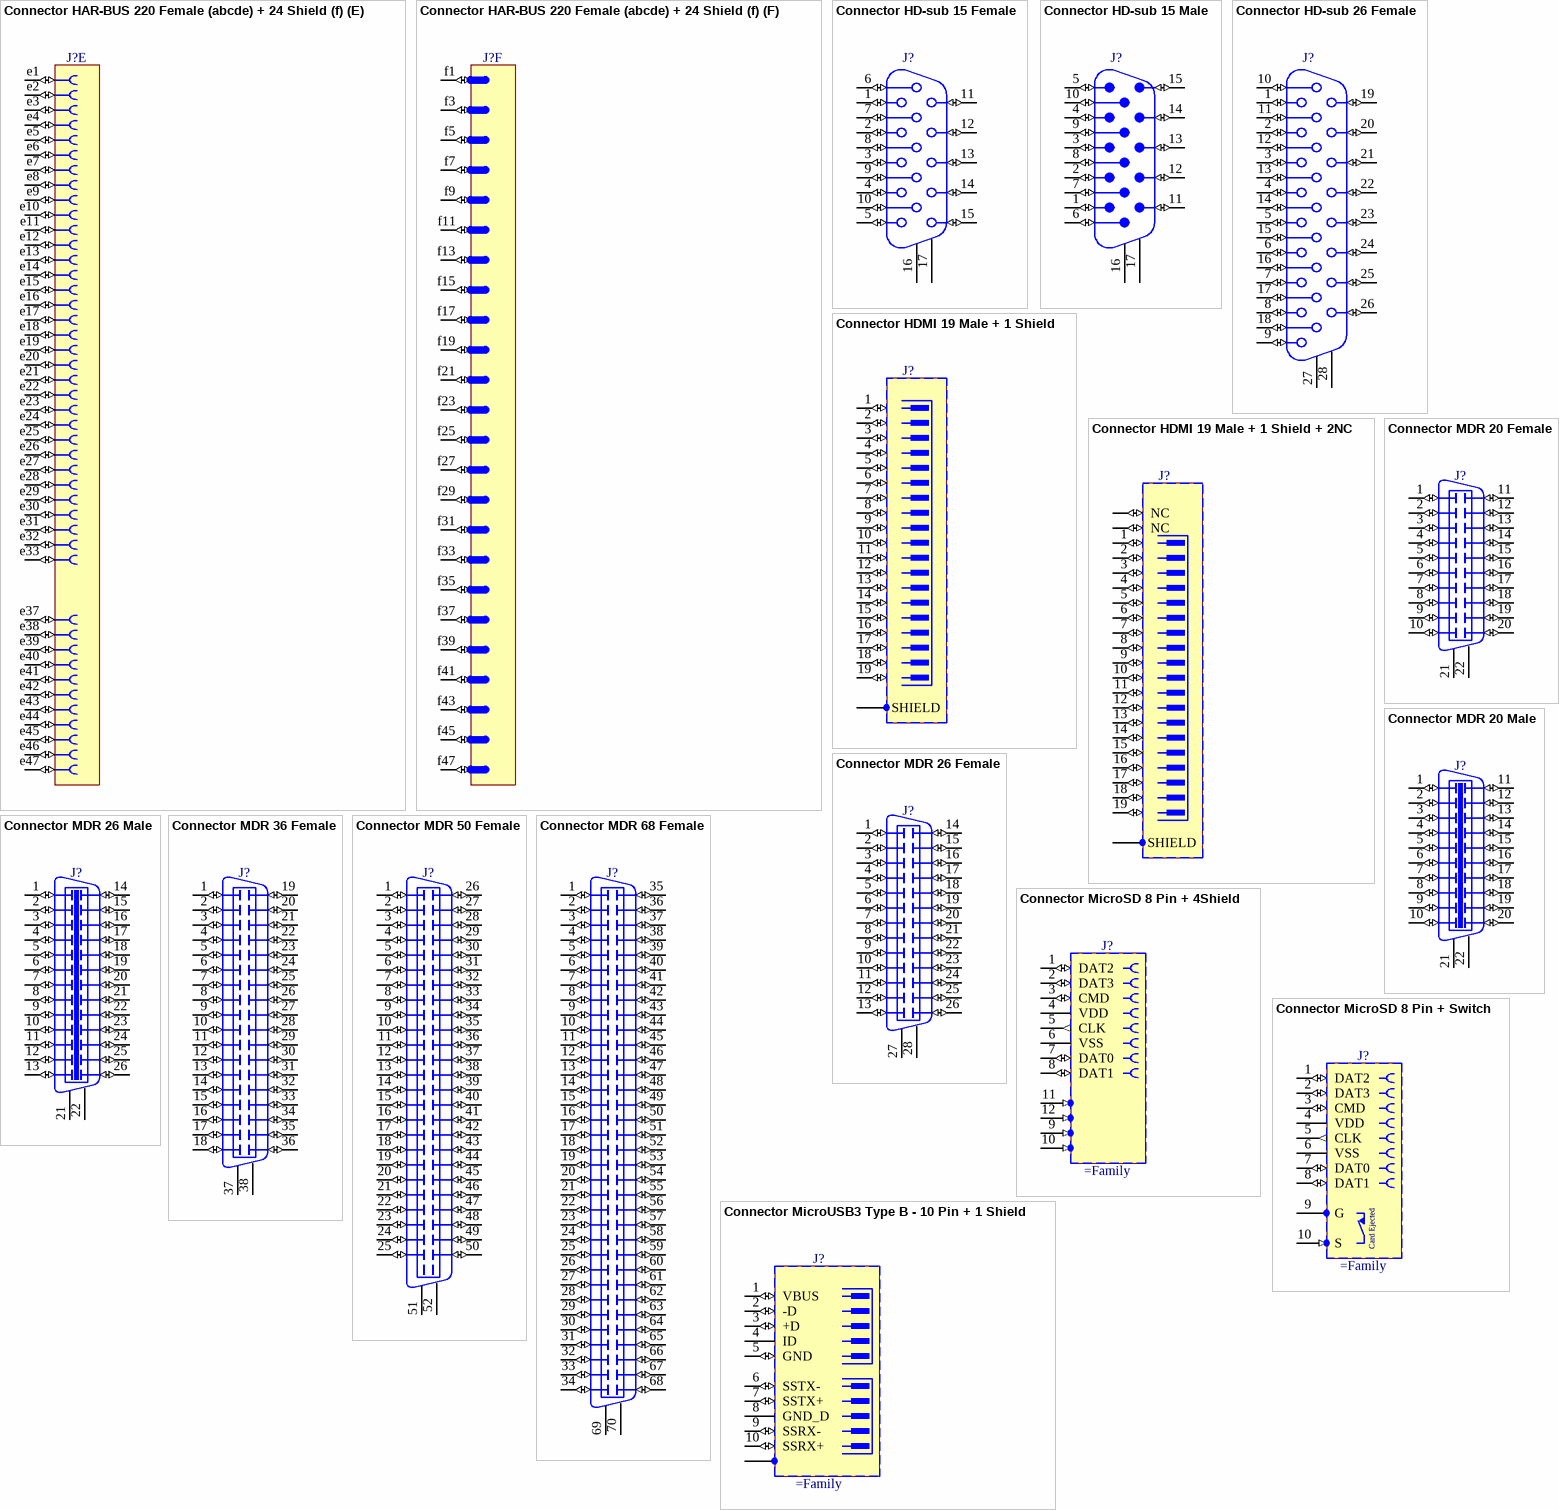
[diagram p50: symbols Connector HAR-BUS 220 Female (abcde) + 24 Shield (f) to Connector MicroUSB3 Type B - 10 Pin + 1 Shield]

## Connector HAR-BUS 220 Female (abcde) + 24 Shield (f)
designator J?
Connector HAR-BUS 220 Female contacts in 5 row abcde + 24 odd Shield contacts in 1 row f
part A pins: a1 (io), a2 (io), a3 (io), a4 (io), a5 (io), a6 (io), a7 (io), a8 (io), a9 (io), a10 (io), a11 (io), a12 (io), a13 (io), a14 (io), a15 (io), a16 (io), a17 (io), a18 (io), a19 (io), a20 (io), a21 (io), a22 (io), a23 (io), a24 (io), a25 (io), a26 (io), a27 (io), a28 (io), a29 (io), a30 (io), a31 (io), a32 (io), a33 (io), a37 (io), a38 (io), a39 (io), a40 (io), a41 (io), a42 (io), a43 (io), a44 (io), a45 (io), a46 (io), a47 (io)
part B pins: b1 (io), b2 (io), b3 (io), b4 (io), b5 (io), b6 (io), b7 (io), b8 (io), b9 (io), b10 (io), b11 (io), b12 (io), b13 (io), b14 (io), b15 (io), b16 (io), b17 (io), b18 (io), b19 (io), b20 (io), b21 (io), b22 (io), b23 (io), b24 (io), b25 (io), b26 (io), b27 (io), b28 (io), b29 (io), b30 (io), b31 (io), b32 (io), b33 (io), b37 (io), b38 (io), b39 (io), b40 (io), b41 (io), b42 (io), b43 (io), b44 (io), b45 (io), b46 (io), b47 (io)
part C pins: c1 (io), c2 (io), c3 (io), c4 (io), c5 (io), c6 (io), c7 (io), c8 (io), c9 (io), c10 (io), c11 (io), c12 (io), c13 (io), c14 (io), c15 (io), c16 (io), c17 (io), c18 (io), c19 (io), c20 (io), c21 (io), c22 (io), c23 (io), c24 (io), c25 (io), c26 (io), c27 (io), c28 (io), c29 (io), c30 (io), c31 (io), c32 (io), c33 (io), c37 (io), c38 (io), c39 (io), c40 (io), c41 (io), c42 (io), c43 (io), c44 (io), c45 (io), c46 (io), c47 (io)
part D pins: d1 (io), d2 (io), d3 (io), d4 (io), d5 (io), d6 (io), d7 (io), d8 (io), d9 (io), d10 (io), d11 (io), d12 (io), d13 (io), d14 (io), d15 (io), d16 (io), d17 (io), d18 (io), d19 (io), d20 (io), d21 (io), d22 (io), d23 (io), d24 (io), d25 (io), d26 (io), d27 (io), d28 (io), d29 (io), d30 (io), d31 (io), d32 (io), d33 (io), d37 (io), d38 (io), d39 (io), d40 (io), d41 (io), d42 (io), d43 (io), d44 (io), d45 (io), d46 (io), d47 (io)
part E pins: e1 (io), e2 (io), e3 (io), e4 (io), e5 (io), e6 (io), e7 (io), e8 (io), e9 (io), e10 (io), e11 (io), e12 (io), e13 (io), e14 (io), e15 (io), e16 (io), e17 (io), e18 (io), e19 (io), e20 (io), e21 (io), e22 (io), e23 (io), e24 (io), e25 (io), e26 (io), e27 (io), e28 (io), e29 (io), e30 (io), e31 (io), e32 (io), e33 (io), e37 (io), e38 (io), e39 (io), e40 (io), e41 (io), e42 (io), e43 (io), e44 (io), e45 (io), e46 (io), e47 (io)
part F pins: f1 (io), f3 (io), f5 (io), f7 (io), f9 (io), f11 (io), f13 (io), f15 (io), f17 (io), f19 (io), f21 (io), f23 (io), f25 (io), f27 (io), f29 (io), f31 (io), f33 (io), f35 (io), f37 (io), f39 (io), f41 (io), f43 (io), f45 (io), f47 (io)

## Connector HD-sub 15 Female
designator J?
Connector High Density D-sub 15 Female
pins: 1 (io), 2 (io), 3 (io), 4 (io), 5 (io), 6 (io), 7 (io), 8 (io), 9 (io), 10 (io), 11 (io), 12 (io), 13 (io), 14 (io), 15 (io), 16, 17
1 alternate drawing of the same symbol

## Connector HD-sub 15 Male
designator J?
Connector High Density D-sub 15 Male
pins: 1 (io), 2 (io), 3 (io), 4 (io), 5 (io), 6 (io), 7 (io), 8 (io), 9 (io), 10 (io), 11 (io), 12 (io), 13 (io), 14 (io), 15 (io), 16, 17
1 alternate drawing of the same symbol

## Connector HD-sub 26 Female
designator J?
Connector High Density D-sub 26 Female
pins: 1 (io), 2 (io), 3 (io), 4 (io), 5 (io), 6 (io), 7 (io), 8 (io), 9 (io), 10 (io), 11 (io), 12 (io), 13 (io), 14 (io), 15 (io), 16 (io), 17 (io), 18 (io), 19 (io), 20 (io), 21 (io), 22 (io), 23 (io), 24 (io), 25 (io), 26 (io), 27, 28
1 alternate drawing of the same symbol

## Connector HDMI 19 Male + 1 Shield
designator J?
Connector HDMI 19 Male + 1 Shield
pins: 1 (io), 2 (io), 3 (io), 4 (io), 5 (io), 6 (io), 7 (io), 8 (io), 9 (io), 10 (io), 11 (io), 12 (io), 13 (io), 14 (io), 15 (io), 16 (io), 17 (io), 18 (io), 19 (io), SHIELD (power)

## Connector HDMI 19 Male + 1 Shield + 2NC
designator J?
Connector HDMI 19 Male + 1 Shield + 2 Not Connected Pads
pins: 1 (io), 2 (io), 3 (io), 4 (io), 5 (io), 6 (io), 7 (io), 8 (io), 9 (io), 10 (io), 11 (io), 12 (io), 13 (io), 14 (io), 15 (io), 16 (io), 17 (io), 18 (io), 19 (io), NC1 NC (io), NC2 NC (io), SHIELD (power)

## Connector MDR 20 Female
designator J?
Connector Mini D Ribbon (MDR) 20 Female
pins: 1 (io), 2 (io), 3 (io), 4 (io), 5 (io), 6 (io), 7 (io), 8 (io), 9 (io), 10 (io), 11 (io), 12 (io), 13 (io), 14 (io), 15 (io), 16 (io), 17 (io), 18 (io), 19 (io), 20 (io), 21, 22

## Connector MDR 20 Male
designator J?
Connector Mini D Ribbon (MDR) 20 Male
pins: 1 (io), 2 (io), 3 (io), 4 (io), 5 (io), 6 (io), 7 (io), 8 (io), 9 (io), 10 (io), 11 (io), 12 (io), 13 (io), 14 (io), 15 (io), 16 (io), 17 (io), 18 (io), 19 (io), 20 (io), 21, 22

## Connector MDR 26 Female
designator J?
Connector Mini D Ribbon (MDR) 26 Female
pins: 1 (io), 2 (io), 3 (io), 4 (io), 5 (io), 6 (io), 7 (io), 8 (io), 9 (io), 10 (io), 11 (io), 12 (io), 13 (io), 14 (io), 15 (io), 16 (io), 17 (io), 18 (io), 19 (io), 20 (io), 21 (io), 22 (io), 23 (io), 24 (io), 25 (io), 26 (io), 27, 28

## Connector MDR 26 Male
designator J?
Connector Mini D Ribbon (MDR) 26 Male
pins: 1 (io), 2 (io), 3 (io), 4 (io), 5 (io), 6 (io), 7 (io), 8 (io), 9 (io), 10 (io), 11 (io), 12 (io), 13 (io), 14 (io), 15 (io), 16 (io), 17 (io), 18 (io), 19 (io), 20 (io), 21 (io), 21, 22 (io), 22, 23 (io), 24 (io), 25 (io), 26 (io)

## Connector MDR 36 Female
designator J?
Connector Mini D Ribbon (MDR) 36 Female
pins: 1 (io), 2 (io), 3 (io), 4 (io), 5 (io), 6 (io), 7 (io), 8 (io), 9 (io), 10 (io), 11 (io), 12 (io), 13 (io), 14 (io), 15 (io), 16 (io), 17 (io), 18 (io), 19 (io), 20 (io), 21 (io), 22 (io), 23 (io), 24 (io), 25 (io), 26 (io), 27 (io), 28 (io), 29 (io), 30 (io), 31 (io), 32 (io), 33 (io), 34 (io), 35 (io), 36 (io), 37, 38

## Connector MDR 50 Female
designator J?
Connector Mini D Ribbon (MDR) 50 Female
pins: 1 (io), 2 (io), 3 (io), 4 (io), 5 (io), 6 (io), 7 (io), 8 (io), 9 (io), 10 (io), 11 (io), 12 (io), 13 (io), 14 (io), 15 (io), 16 (io), 17 (io), 18 (io), 19 (io), 20 (io), 21 (io), 22 (io), 23 (io), 24 (io), 25 (io), 26 (io), 27 (io), 28 (io), 29 (io), 30 (io), 31 (io), 32 (io), 33 (io), 34 (io), 35 (io), 36 (io), 37 (io), 38 (io), 39 (io), 40 (io), 41 (io), 42 (io), 43 (io), 44 (io), 45 (io), 46 (io), 47 (io), 48 (io), 49 (io), 50 (io), 51, 52

## Connector MDR 68 Female
designator J?
Connector Mini D Ribbon (MDR) 68 Female
pins: 1 (io), 2 (io), 3 (io), 4 (io), 5 (io), 6 (io), 7 (io), 8 (io), 9 (io), 10 (io), 11 (io), 12 (io), 13 (io), 14 (io), 15 (io), 16 (io), 17 (io), 18 (io), 19 (io), 20 (io), 21 (io), 22 (io), 23 (io), 24 (io), 25 (io), 26 (io), 27 (io), 28 (io), 29 (io), 30 (io), 31 (io), 32 (io), 33 (io), 34 (io), 35 (io), 36 (io), 37 (io), 38 (io), 39 (io), 40 (io), 41 (io), 42 (io), 43 (io), 44 (io), 45 (io), 46 (io), 47 (io), 48 (io), 49 (io), 50 (io), 51 (io), 52 (io), 53 (io), 54 (io), 55 (io), 56 (io), 57 (io), 58 (io), 59 (io), 60 (io), 61 (io), 62 (io), 63 (io), 64 (io), 65 (io), 66 (io), 67 (io), 68 (io), 69, 70

## Connector MicroSD 8 Pin + 4Shield
designator J?
Connector MicroSD 8 Pin + 4 Shield
pins: 1 DAT2 (io), 2 DAT3 (io), 3 CMD (io), 4 VDD (power), 5 CLK (out), 6 VSS (power), 7 DAT0 (io), 8 DAT1 (io), 9 (in), 10 (in), 11 (in), 12 (in)

## Connector MicroSD 8 Pin + Switch
designator J?
Connector MicroSD 8 Pin + Switch
pins: 1 DAT2 (io), 2 DAT3 (io), 3 CMD (io), 4 VDD (power), 5 CLK (out), 6 VSS (power), 7 DAT0 (io), 8 DAT1 (io), 9 G (power), 10 S (in)
text: Card Ejected

## Connector MicroUSB3 Type B - 10 Pin + 1 Shield
designator J?
10 Pin + 1 Shield Micro-USB 3.0 Type B Receptacle
pins: 1 VBUS (io), 2 -D (io), 3 +D (io), 4 ID, 5 GND (io), 6 SSTX- (io), 7 SSTX+ (io), 8 GND_D (power), 9 SSRX- (io), 10 SSRX+ (io), 11 SHIELD (power)

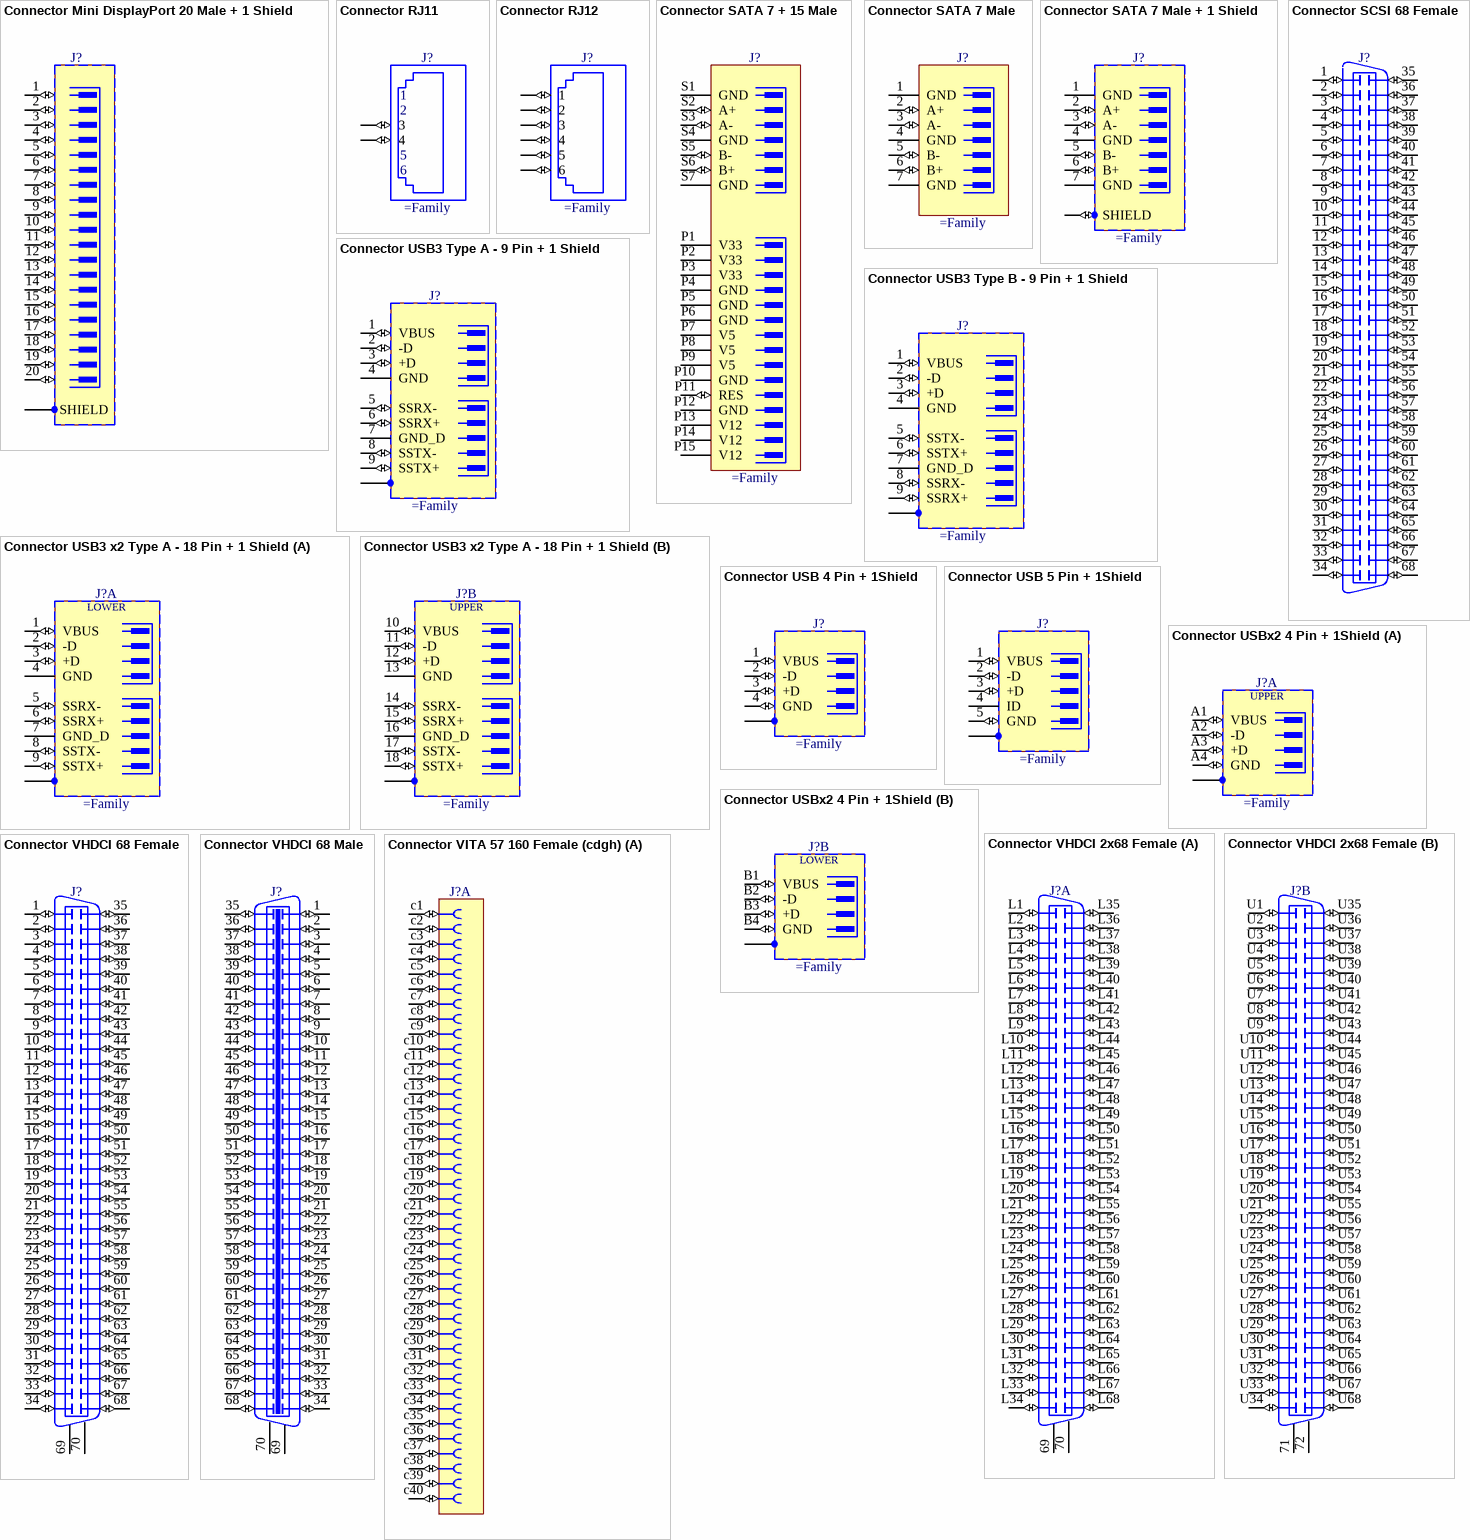
[diagram p51: symbols Connector Mini DisplayPort 20 Male + 1 Shield to Connector VITA 57 160 Female (cdgh)]

## Connector Mini DisplayPort 20 Male + 1 Shield
designator J?
Connector Mini DisplayPort 20 Male + 1 Shield
pins: 1 (io), 2 (io), 3 (io), 4 (io), 5 (io), 6 (io), 7 (io), 8 (io), 9 (io), 10 (io), 11 (io), 12 (io), 13 (io), 14 (io), 15 (io), 16 (io), 17 (io), 18 (io), 19 (io), 20 (io), SHIELD (power)

## Connector RJ11
designator J?
Connector RJ11 (6P2C)
pins: 3 (io), 4 (io)
text: 1; 2; 5; 6

## Connector RJ12
designator J?
Connector RJ12 (6P6C)
pins: 1 (io), 2 (io), 3 (io), 4 (io), 5 (io), 6 (io)

## Connector SATA 7 + 15 Male
designator J?
7 Signal Pin + 15 Power Pin SATA Connecteur
pins: P1 V33 (power), P2 V33 (power), P3 V33 (power), P4 GND (power), P5 GND (power), P6 GND (power), P7 V5 (power), P8 V5 (power), P9 V5 (power), P10 GND (power), P11 RES (io), P12 GND (power), P13 V12 (power), P14 V12 (power), P15 V12 (power), S1 GND (power) "Ground", S2 A+ (io) "Transmit+", S3 A- (io) "Transmit-", S4 GND (power) "Ground", S5 B- (io) "Receive-", S6 B+ (io) "Receive+", S7 GND (power) "Ground"

## Connector SATA 7 Male
designator J?
7 Pin SATA Receptacle
pins: 1 GND (power) "Ground", 2 A+ (io) "Transmit+", 3 A- (io) "Transmit-", 4 GND (power) "Ground", 5 B- (io) "Receive-", 6 B+ (io) "Receive+", 7 GND (power) "Ground"

## Connector SATA 7 Male + 1 Shield
designator J?
7 Pin + 1 Shield SATA Receptacle
pins: 1 GND (power) "Ground", 2 A+ (io) "Transmit+", 3 A- (io) "Transmit-", 4 GND (power) "Ground", 5 B- (io) "Receive-", 6 B+ (io) "Receive+", 7 GND (power) "Ground", 8 SHIELD (io)

## Connector SCSI 68 Female
designator J?
Connector SCSI 68 Female
pins: 1 (io), 2 (io), 3 (io), 4 (io), 5 (io), 6 (io), 7 (io), 8 (io), 9 (io), 10 (io), 11 (io), 12 (io), 13 (io), 14 (io), 15 (io), 16 (io), 17 (io), 18 (io), 19 (io), 20 (io), 21 (io), 22 (io), 23 (io), 24 (io), 25 (io), 26 (io), 27 (io), 28 (io), 29 (io), 30 (io), 31 (io), 32 (io), 33 (io), 34 (io), 35 (io), 36 (io), 37 (io), 38 (io), 39 (io), 40 (io), 41 (io), 42 (io), 43 (io), 44 (io), 45 (io), 46 (io), 47 (io), 48 (io), 49 (io), 50 (io), 51 (io), 52 (io), 53 (io), 54 (io), 55 (io), 56 (io), 57 (io), 58 (io), 59 (io), 60 (io), 61 (io), 62 (io), 63 (io), 64 (io), 65 (io), 66 (io), 67 (io), 68 (io)

## Connector USB3 Type A - 9 Pin + 1 Shield
designator J?
9 Pin + 1 Shield USB 3.0 Type A Receptacle
pins: 1 VBUS (io), 2 -D (io), 3 +D (io), 4 GND (power), 5 SSRX- (io), 6 SSRX+ (io), 7 GND_D (power), 8 SSTX- (io), 9 SSTX+ (io), 10 SHIELD (power)

## Connector USB3 Type B - 9 Pin + 1 Shield
designator J?
9 Pin + 1 Shield USB 3.0 Type B Receptacle
pins: 1 VBUS (io), 2 -D (io), 3 +D (io), 4 GND (power), 5 SSTX- (io), 6 SSTX+ (io), 7 GND_D (power), 8 SSRX- (io), 9 SSRX+ (io), 10 SHIELD (power)

## Connector USB3 x2 Type A - 18 Pin + 1 Shield
designator J?
2x9 Pin + 1 Shield  Duals USB 3.0 Type A Receptacle
part A pins: 1 VBUS (io), 2 -D (io), 3 +D (io), 4 GND (power), 5 SSRX- (io), 6 SSRX+ (io), 7 GND_D (power), 8 SSTX- (io), 9 SSTX+ (io), 19 SHIELD (power)
part B pins: 10 VBUS (io), 11 -D (io), 12 +D (io), 13 GND (power), 14 SSRX- (io), 15 SSRX+ (io), 16 GND_D (power), 17 SSTX- (io), 18 SSTX+ (io), 20 SHIELD (power)
part A text: LOWER
part B text: UPPER

## Connector USB 4 Pin + 1Shield
designator J?
4 Pin + 1 Shield USB Receptacle
pins: 1 VBUS (io), 2 -D (io), 3 +D (io), 4 GND (io), 5 SHIELD (power)

## Connector USB 5 Pin + 1Shield
designator J?
5 Pin + 1 Shield USB Receptacle
pins: 1 VBUS (io), 2 -D (io), 3 +D (io), 4 ID, 5 GND (io), 6 SH (power)

## Connector USBx2 4 Pin + 1Shield
designator J?
Dual 4 Pin + 1 Shield USB Receptacle
part A pins: 1 SHIELD (power), A1 VBUS (io), A2 -D (io), A3 +D (io), A4 GND (io)
part B pins: 2 SHIELD (power), B1 VBUS (io), B2 -D (io), B3 +D (io), B4 GND (io)
part A text: UPPER
part B text: LOWER

## Connector VHDCI 2x68 Female
designator J?
Very High Density Cable Interconnect (VHDCI ) 2x68 Female
part A pins: 69, 70, L1 1 (io), L2 2 (io), L3 3 (io), L4 4 (io), L5 5 (io), L6 6 (io), L7 7 (io), L8 8 (io), L9 9 (io), L10 10 (io), L11 11 (io), L12 12 (io), L13 13 (io), L14 14 (io), L15 15 (io), L16 16 (io), L17 17 (io), L18 18 (io), L19 19 (io), L20 20 (io), L21 21 (io), L22 22 (io), L23 23 (io), L24 24 (io), L25 25 (io), L26 26 (io), L27 27 (io), L28 28 (io), L29 29 (io), L30 30 (io), L31 31 (io), L32 32 (io), L33 33 (io), L34 34 (io), L35 35 (io), L36 36 (io), L37 37 (io), L38 38 (io), L39 39 (io), L40 40 (io), L41 41 (io), L42 42 (io), L43 43 (io), L44 44 (io), L45 45 (io), L46 46 (io), L47 47 (io), L48 48 (io), L49 49 (io), L50 50 (io), L51 51 (io), L52 52 (io), L53 53 (io), L54 54 (io), L55 55 (io), L56 56 (io), L57 57 (io), L58 58 (io), L59 59 (io), L60 60 (io), L61 61 (io), L62 62 (io), L63 63 (io), L64 64 (io), L65 65 (io), L66 66 (io), L67 67 (io), L68 68 (io)
part B pins: 71, 72, U1 1 (io), U2 2 (io), U3 3 (io), U4 4 (io), U5 5 (io), U6 6 (io), U7 7 (io), U8 8 (io), U9 9 (io), U10 10 (io), U11 11 (io), U12 12 (io), U13 13 (io), U14 14 (io), U15 15 (io), U16 16 (io), U17 17 (io), U18 18 (io), U19 19 (io), U20 20 (io), U21 21 (io), U22 22 (io), U23 23 (io), U24 24 (io), U25 25 (io), U26 26 (io), U27 27 (io), U28 28 (io), U29 29 (io), U30 30 (io), U31 31 (io), U32 32 (io), U33 33 (io), U34 34 (io), U35 35 (io), U36 36 (io), U37 37 (io), U38 38 (io), U39 39 (io), U40 40 (io), U41 41 (io), U42 42 (io), U43 43 (io), U44 44 (io), U45 45 (io), U46 46 (io), U47 47 (io), U48 48 (io), U49 49 (io), U50 50 (io), U51 51 (io), U52 52 (io), U53 53 (io), U54 54 (io), U55 55 (io), U56 56 (io), U57 57 (io), U58 58 (io), U59 59 (io), U60 60 (io), U61 61 (io), U62 62 (io), U63 63 (io), U64 64 (io), U65 65 (io), U66 66 (io), U67 67 (io), U68 68 (io)

## Connector VHDCI 68 Female
designator J?
Very High Density Cable Interconnect (VHDCI ) 68 Female
pins: 1 (io), 2 (io), 3 (io), 4 (io), 5 (io), 6 (io), 7 (io), 8 (io), 9 (io), 10 (io), 11 (io), 12 (io), 13 (io), 14 (io), 15 (io), 16 (io), 17 (io), 18 (io), 19 (io), 20 (io), 21 (io), 22 (io), 23 (io), 24 (io), 25 (io), 26 (io), 27 (io), 28 (io), 29 (io), 30 (io), 31 (io), 32 (io), 33 (io), 34 (io), 35 (io), 36 (io), 37 (io), 38 (io), 39 (io), 40 (io), 41 (io), 42 (io), 43 (io), 44 (io), 45 (io), 46 (io), 47 (io), 48 (io), 49 (io), 50 (io), 51 (io), 52 (io), 53 (io), 54 (io), 55 (io), 56 (io), 57 (io), 58 (io), 59 (io), 60 (io), 61 (io), 62 (io), 63 (io), 64 (io), 65 (io), 66 (io), 67 (io), 68 (io), 69, 70
1 alternate drawing of the same symbol

## Connector VHDCI 68 Male
designator J?
Very High Density Cable Interconnect (VHDCI ) 68 Male
pins: 1 (io), 2 (io), 3 (io), 4 (io), 5 (io), 6 (io), 7 (io), 8 (io), 9 (io), 10 (io), 11 (io), 12 (io), 13 (io), 14 (io), 15 (io), 16 (io), 17 (io), 18 (io), 19 (io), 20 (io), 21 (io), 22 (io), 23 (io), 24 (io), 25 (io), 26 (io), 27 (io), 28 (io), 29 (io), 30 (io), 31 (io), 32 (io), 33 (io), 34 (io), 35 (io), 36 (io), 37 (io), 38 (io), 39 (io), 40 (io), 41 (io), 42 (io), 43 (io), 44 (io), 45 (io), 46 (io), 47 (io), 48 (io), 49 (io), 50 (io), 51 (io), 52 (io), 53 (io), 54 (io), 55 (io), 56 (io), 57 (io), 58 (io), 59 (io), 60 (io), 61 (io), 62 (io), 63 (io), 64 (io), 65 (io), 66 (io), 67 (io), 68 (io), 69, 70
1 alternate drawing of the same symbol

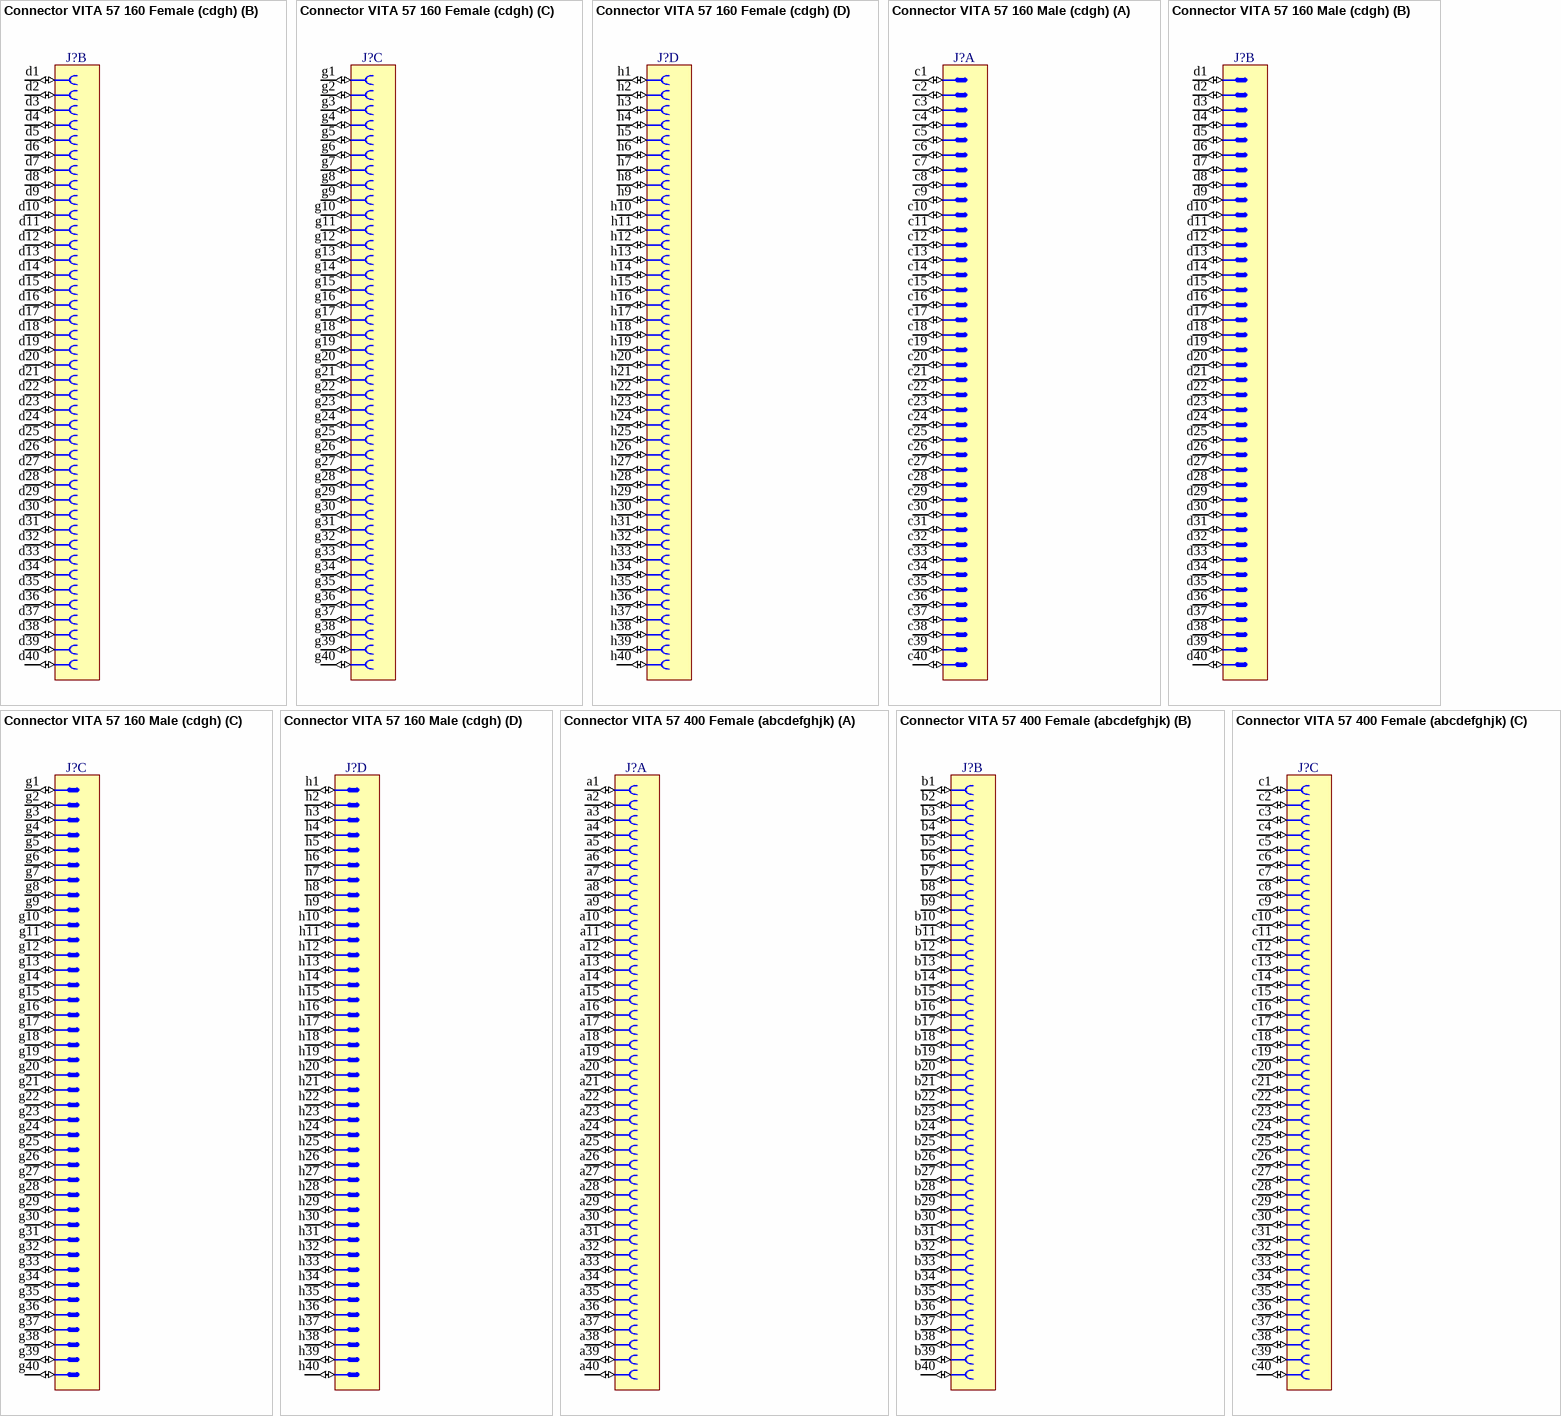
[diagram p52: symbols Connector VITA 57 160 Female (cdgh) to Connector VITA 57 400 Female (abcdefghjk)]

## Connector VITA 57 160 Female (cdgh)
designator J?
Connector VITA 57, 160 Female contacts in 4 row cdgh
part A pins: c1 (io), c2 (io), c3 (io), c4 (io), c5 (io), c6 (io), c7 (io), c8 (io), c9 (io), c10 (io), c11 (io), c12 (io), c13 (io), c14 (io), c15 (io), c16 (io), c17 (io), c18 (io), c19 (io), c20 (io), c21 (io), c22 (io), c23 (io), c24 (io), c25 (io), c26 (io), c27 (io), c28 (io), c29 (io), c30 (io), c31 (io), c32 (io), c33 (io), c34 (io), c35 (io), c36 (io), c37 (io), c38 (io), c39 (io), c40 (io)
part B pins: d1 (io), d2 (io), d3 (io), d4 (io), d5 (io), d6 (io), d7 (io), d8 (io), d9 (io), d10 (io), d11 (io), d12 (io), d13 (io), d14 (io), d15 (io), d16 (io), d17 (io), d18 (io), d19 (io), d20 (io), d21 (io), d22 (io), d23 (io), d24 (io), d25 (io), d26 (io), d27 (io), d28 (io), d29 (io), d30 (io), d31 (io), d32 (io), d33 (io), d34 (io), d35 (io), d36 (io), d37 (io), d38 (io), d39 (io), d40 (io)
part C pins: g1 (io), g2 (io), g3 (io), g4 (io), g5 (io), g6 (io), g7 (io), g8 (io), g9 (io), g10 (io), g11 (io), g12 (io), g13 (io), g14 (io), g15 (io), g16 (io), g17 (io), g18 (io), g19 (io), g20 (io), g21 (io), g22 (io), g23 (io), g24 (io), g25 (io), g26 (io), g27 (io), g28 (io), g29 (io), g30 (io), g31 (io), g32 (io), g33 (io), g34 (io), g35 (io), g36 (io), g37 (io), g38 (io), g39 (io), g40 (io)
part D pins: h1 (io), h2 (io), h3 (io), h4 (io), h5 (io), h6 (io), h7 (io), h8 (io), h9 (io), h10 (io), h11 (io), h12 (io), h13 (io), h14 (io), h15 (io), h16 (io), h17 (io), h18 (io), h19 (io), h20 (io), h21 (io), h22 (io), h23 (io), h24 (io), h25 (io), h26 (io), h27 (io), h28 (io), h29 (io), h30 (io), h31 (io), h32 (io), h33 (io), h34 (io), h35 (io), h36 (io), h37 (io), h38 (io), h39 (io), h40 (io)

## Connector VITA 57 160 Male (cdgh)
designator J?
Connector VITA 57, 160 Male contacts in 4 row cdgh
part A pins: c1 (io), c2 (io), c3 (io), c4 (io), c5 (io), c6 (io), c7 (io), c8 (io), c9 (io), c10 (io), c11 (io), c12 (io), c13 (io), c14 (io), c15 (io), c16 (io), c17 (io), c18 (io), c19 (io), c20 (io), c21 (io), c22 (io), c23 (io), c24 (io), c25 (io), c26 (io), c27 (io), c28 (io), c29 (io), c30 (io), c31 (io), c32 (io), c33 (io), c34 (io), c35 (io), c36 (io), c37 (io), c38 (io), c39 (io), c40 (io)
part B pins: d1 (io), d2 (io), d3 (io), d4 (io), d5 (io), d6 (io), d7 (io), d8 (io), d9 (io), d10 (io), d11 (io), d12 (io), d13 (io), d14 (io), d15 (io), d16 (io), d17 (io), d18 (io), d19 (io), d20 (io), d21 (io), d22 (io), d23 (io), d24 (io), d25 (io), d26 (io), d27 (io), d28 (io), d29 (io), d30 (io), d31 (io), d32 (io), d33 (io), d34 (io), d35 (io), d36 (io), d37 (io), d38 (io), d39 (io), d40 (io)
part C pins: g1 (io), g2 (io), g3 (io), g4 (io), g5 (io), g6 (io), g7 (io), g8 (io), g9 (io), g10 (io), g11 (io), g12 (io), g13 (io), g14 (io), g15 (io), g16 (io), g17 (io), g18 (io), g19 (io), g20 (io), g21 (io), g22 (io), g23 (io), g24 (io), g25 (io), g26 (io), g27 (io), g28 (io), g29 (io), g30 (io), g31 (io), g32 (io), g33 (io), g34 (io), g35 (io), g36 (io), g37 (io), g38 (io), g39 (io), g40 (io)
part D pins: h1 (io), h2 (io), h3 (io), h4 (io), h5 (io), h6 (io), h7 (io), h8 (io), h9 (io), h10 (io), h11 (io), h12 (io), h13 (io), h14 (io), h15 (io), h16 (io), h17 (io), h18 (io), h19 (io), h20 (io), h21 (io), h22 (io), h23 (io), h24 (io), h25 (io), h26 (io), h27 (io), h28 (io), h29 (io), h30 (io), h31 (io), h32 (io), h33 (io), h34 (io), h35 (io), h36 (io), h37 (io), h38 (io), h39 (io), h40 (io)

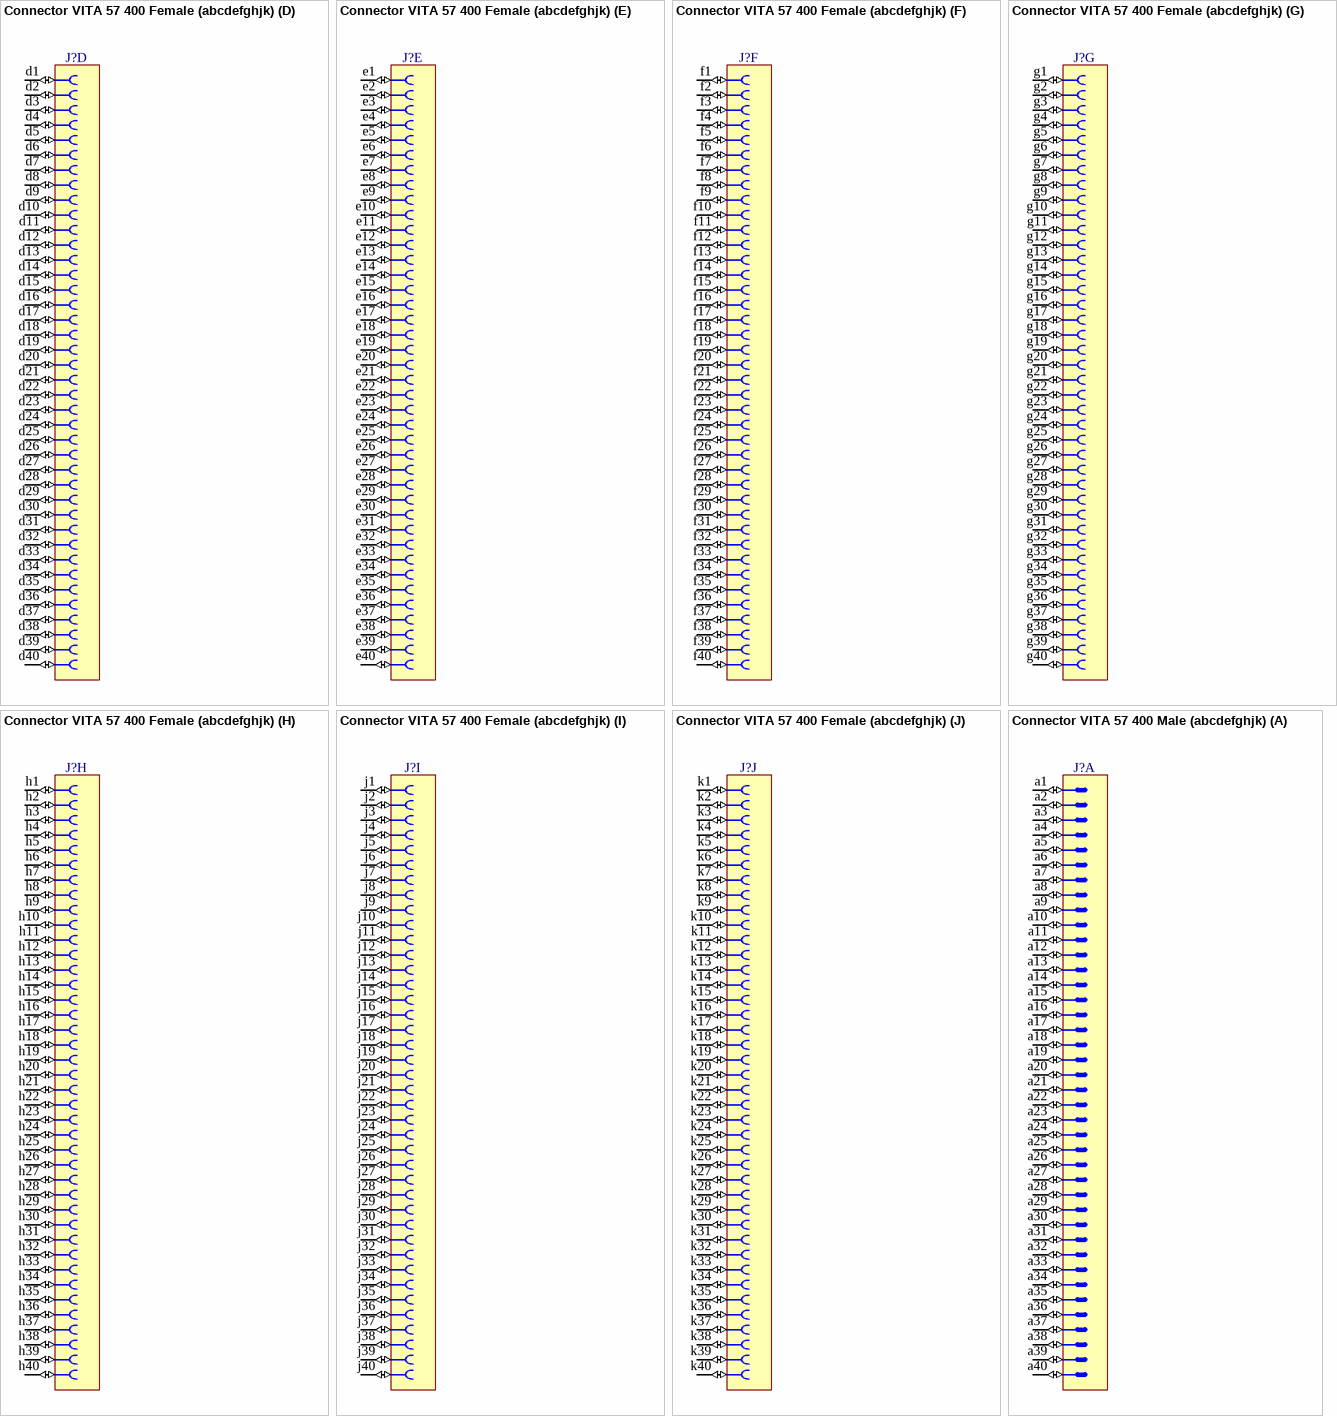
[diagram p53: symbols Connector VITA 57 400 Female (abcdefghjk) to Connector VITA 57 400 Male (abcdefghjk)]

## Connector VITA 57 400 Female (abcdefghjk)
designator J?
Connector VITA 57, 400 Female contacts in 10 row abcdefghj
part A pins: a1 (io), a2 (io), a3 (io), a4 (io), a5 (io), a6 (io), a7 (io), a8 (io), a9 (io), a10 (io), a11 (io), a12 (io), a13 (io), a14 (io), a15 (io), a16 (io), a17 (io), a18 (io), a19 (io), a20 (io), a21 (io), a22 (io), a23 (io), a24 (io), a25 (io), a26 (io), a27 (io), a28 (io), a29 (io), a30 (io), a31 (io), a32 (io), a33 (io), a34 (io), a35 (io), a36 (io), a37 (io), a38 (io), a39 (io), a40 (io)
part B pins: b1 (io), b2 (io), b3 (io), b4 (io), b5 (io), b6 (io), b7 (io), b8 (io), b9 (io), b10 (io), b11 (io), b12 (io), b13 (io), b14 (io), b15 (io), b16 (io), b17 (io), b18 (io), b19 (io), b20 (io), b21 (io), b22 (io), b23 (io), b24 (io), b25 (io), b26 (io), b27 (io), b28 (io), b29 (io), b30 (io), b31 (io), b32 (io), b33 (io), b34 (io), b35 (io), b36 (io), b37 (io), b38 (io), b39 (io), b40 (io)
part C pins: c1 (io), c2 (io), c3 (io), c4 (io), c5 (io), c6 (io), c7 (io), c8 (io), c9 (io), c10 (io), c11 (io), c12 (io), c13 (io), c14 (io), c15 (io), c16 (io), c17 (io), c18 (io), c19 (io), c20 (io), c21 (io), c22 (io), c23 (io), c24 (io), c25 (io), c26 (io), c27 (io), c28 (io), c29 (io), c30 (io), c31 (io), c32 (io), c33 (io), c34 (io), c35 (io), c36 (io), c37 (io), c38 (io), c39 (io), c40 (io)
part D pins: d1 (io), d2 (io), d3 (io), d4 (io), d5 (io), d6 (io), d7 (io), d8 (io), d9 (io), d10 (io), d11 (io), d12 (io), d13 (io), d14 (io), d15 (io), d16 (io), d17 (io), d18 (io), d19 (io), d20 (io), d21 (io), d22 (io), d23 (io), d24 (io), d25 (io), d26 (io), d27 (io), d28 (io), d29 (io), d30 (io), d31 (io), d32 (io), d33 (io), d34 (io), d35 (io), d36 (io), d37 (io), d38 (io), d39 (io), d40 (io)
part E pins: e1 (io), e2 (io), e3 (io), e4 (io), e5 (io), e6 (io), e7 (io), e8 (io), e9 (io), e10 (io), e11 (io), e12 (io), e13 (io), e14 (io), e15 (io), e16 (io), e17 (io), e18 (io), e19 (io), e20 (io), e21 (io), e22 (io), e23 (io), e24 (io), e25 (io), e26 (io), e27 (io), e28 (io), e29 (io), e30 (io), e31 (io), e32 (io), e33 (io), e34 (io), e35 (io), e36 (io), e37 (io), e38 (io), e39 (io), e40 (io)
part F pins: f1 (io), f2 (io), f3 (io), f4 (io), f5 (io), f6 (io), f7 (io), f8 (io), f9 (io), f10 (io), f11 (io), f12 (io), f13 (io), f14 (io), f15 (io), f16 (io), f17 (io), f18 (io), f19 (io), f20 (io), f21 (io), f22 (io), f23 (io), f24 (io), f25 (io), f26 (io), f27 (io), f28 (io), f29 (io), f30 (io), f31 (io), f32 (io), f33 (io), f34 (io), f35 (io), f36 (io), f37 (io), f38 (io), f39 (io), f40 (io)
part G pins: g1 (io), g2 (io), g3 (io), g4 (io), g5 (io), g6 (io), g7 (io), g8 (io), g9 (io), g10 (io), g11 (io), g12 (io), g13 (io), g14 (io), g15 (io), g16 (io), g17 (io), g18 (io), g19 (io), g20 (io), g21 (io), g22 (io), g23 (io), g24 (io), g25 (io), g26 (io), g27 (io), g28 (io), g29 (io), g30 (io), g31 (io), g32 (io), g33 (io), g34 (io), g35 (io), g36 (io), g37 (io), g38 (io), g39 (io), g40 (io)
part H pins: h1 (io), h2 (io), h3 (io), h4 (io), h5 (io), h6 (io), h7 (io), h8 (io), h9 (io), h10 (io), h11 (io), h12 (io), h13 (io), h14 (io), h15 (io), h16 (io), h17 (io), h18 (io), h19 (io), h20 (io), h21 (io), h22 (io), h23 (io), h24 (io), h25 (io), h26 (io), h27 (io), h28 (io), h29 (io), h30 (io), h31 (io), h32 (io), h33 (io), h34 (io), h35 (io), h36 (io), h37 (io), h38 (io), h39 (io), h40 (io)
part I pins: j1 (io), j2 (io), j3 (io), j4 (io), j5 (io), j6 (io), j7 (io), j8 (io), j9 (io), j10 (io), j11 (io), j12 (io), j13 (io), j14 (io), j15 (io), j16 (io), j17 (io), j18 (io), j19 (io), j20 (io), j21 (io), j22 (io), j23 (io), j24 (io), j25 (io), j26 (io), j27 (io), j28 (io), j29 (io), j30 (io), j31 (io), j32 (io), j33 (io), j34 (io), j35 (io), j36 (io), j37 (io), j38 (io), j39 (io), j40 (io)
part J pins: k1 (io), k2 (io), k3 (io), k4 (io), k5 (io), k6 (io), k7 (io), k8 (io), k9 (io), k10 (io), k11 (io), k12 (io), k13 (io), k14 (io), k15 (io), k16 (io), k17 (io), k18 (io), k19 (io), k20 (io), k21 (io), k22 (io), k23 (io), k24 (io), k25 (io), k26 (io), k27 (io), k28 (io), k29 (io), k30 (io), k31 (io), k32 (io), k33 (io), k34 (io), k35 (io), k36 (io), k37 (io), k38 (io), k39 (io), k40 (io)

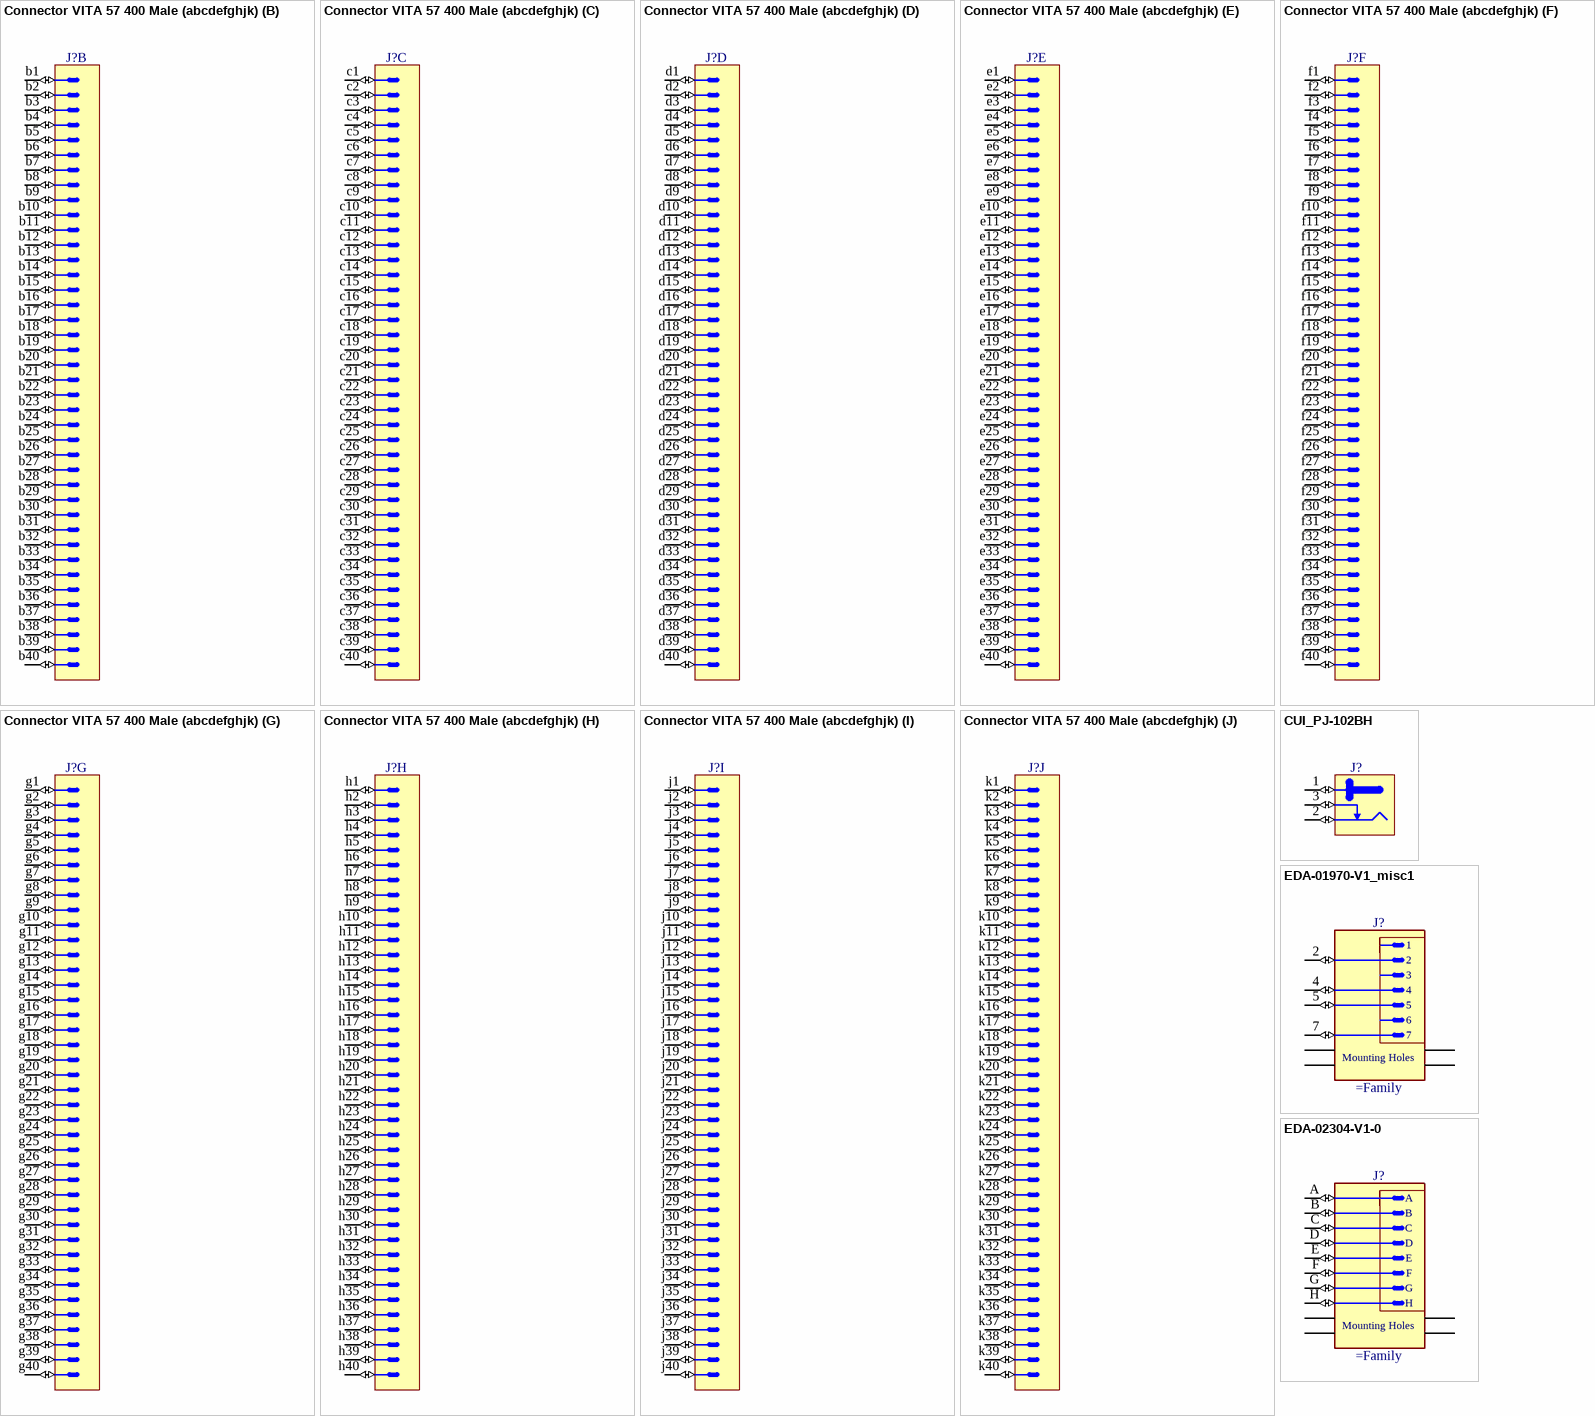
[diagram p54: symbols Connector VITA 57 400 Male (abcdefghjk) to EDA-02304-V1-0]